# Altium integrated library Lattice FPGA XP.IntLib: 280 symbols (part 5 of 55)
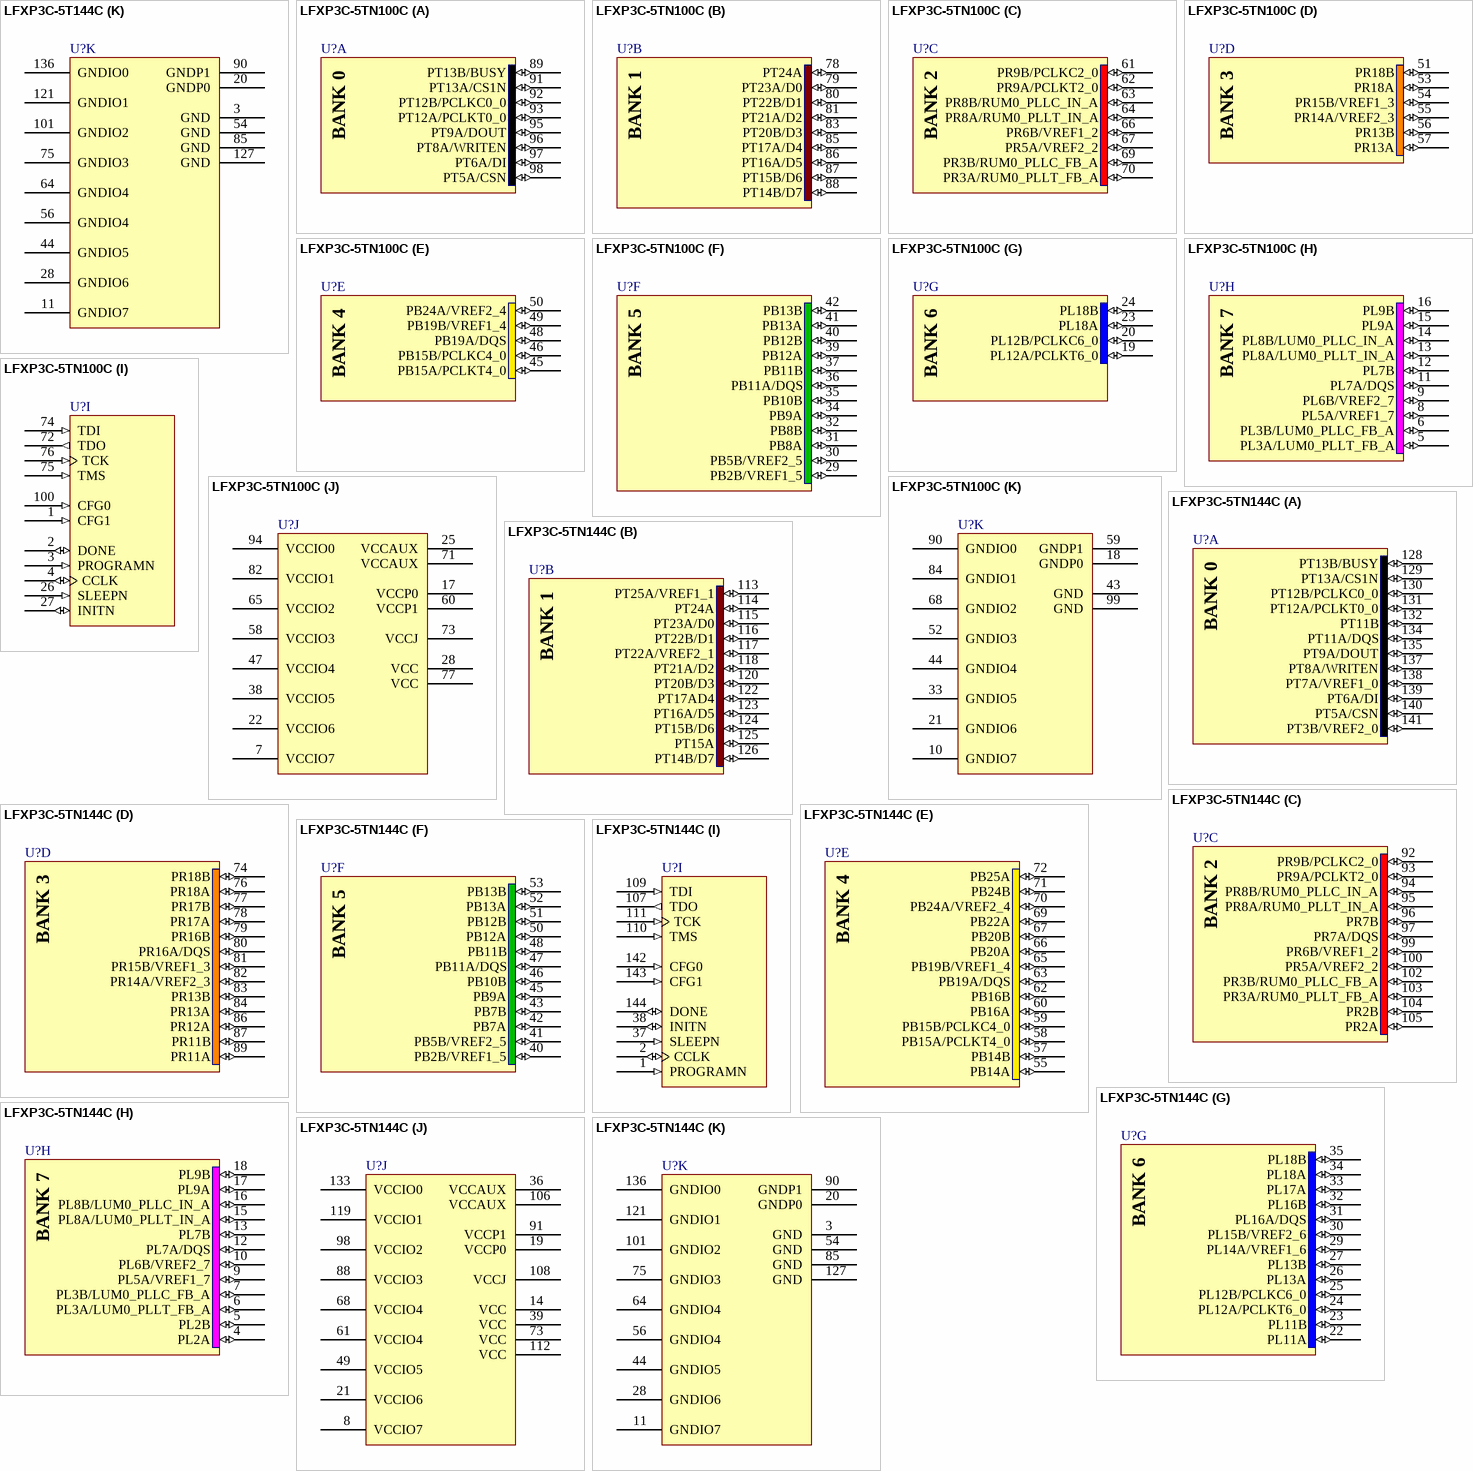
[diagram p254: symbols LFXP3C-5T144C to LFXP3C-5TN144C]

## LFXP3C-5TN144C
designator U?
XP 1.8/2.5/3.3V FPGA, 100 I/Os, 3K LUTs, 144-Pin TQFP, Speed Grade 5, Commerical Grade, Pb-Free; DatasheetVersion: ver05.1, Nov-2007; PackageVersion: ver02.8, Jul-2011; PackageReference: TQFP144; PackageDescription: 144-Pin Thin Quad Flat Pack (TQFP144); Code_JEDEC: MS-026-BFB; ComponentLink1Description: Manufacturer URL; ComponentLink1URL: http://www.latticesemi.com/; ComponentLink2Description: Datasheet; ComponentLink2URL: http://www.latticesemi.com/lit/docs/datasheets/fpga/DS1001.pdf; ComponentLink3Description: Package Specification; ComponentLink3URL: http://www.latticesemi.com/lit/docs/package/pkg.pdf
footprint TQFP144_N (Thin QFP, 144-Leads, Body 20x20mm, Pitch 0.5mm, IPC Medium Density)
footprint TQFP144_L (Thin QFP, 144-Leads, Body 20x20mm, Pitch 0.5mm, IPC High Density)
footprint TQFP144_M (Thin QFP, 144-Leads, Body 20x20mm, Pitch 0.5mm, IPC Low Density)
part A pins: 128 PT13B/BUSY (io), 129 PT13A/CS1N (io), 130 PT12B/PCLKC0_0 (io), 131 PT12A/PCLKT0_0 (io), 132 PT11B (io), 134 PT11A/DQS (io), 135 PT9A/DOUT (io), 137 PT8A/WRITEN (io), 138 PT7A/VREF1_0 (io), 139 PT6A/DI (io), 140 PT5A/CSN (io), 141 PT3B/VREF2_0 (io)
part B pins: 113 PT25A/VREF1_1 (io), 114 PT24A (io), 115 PT23A/D0 (io), 116 PT22B/D1 (io), 117 PT22A/VREF2_1 (io), 118 PT21A/D2 (io), 120 PT20B/D3 (io), 122 PT17AD4 (io), 123 PT16A/D5 (io), 124 PT15B/D6 (io), 125 PT15A (io), 126 PT14B/D7 (io)
part C pins: 92 PR9B/PCLKC2_0 (io), 93 PR9A/PCLKT2_0 (io), 94 PR8B/RUM0_PLLC_IN_A (io), 95 PR8A/RUM0_PLLT_IN_A (io), 96 PR7B (io), 97 PR7A/DQS (io), 99 PR6B/VREF1_2 (io), 100 PR5A/VREF2_2 (io), 102 PR3B/RUM0_PLLC_FB_A (io), 103 PR3A/RUM0_PLLT_FB_A (io), 104 PR2B (io), 105 PR2A (io)
part D pins: 74 PR18B (io), 76 PR18A (io), 77 PR17B (io), 78 PR17A (io), 79 PR16B (io), 80 PR16A/DQS (io), 81 PR15B/VREF1_3 (io), 82 PR14A/VREF2_3 (io), 83 PR13B (io), 84 PR13A (io), 86 PR12A (io), 87 PR11B (io), 89 PR11A (io)
part E pins: 55 PB14A (io), 57 PB14B (io), 58 PB15A/PCLKT4_0 (io), 59 PB15B/PCLKC4_0 (io), 60 PB16A (io), 62 PB16B (io), 63 PB19A/DQS (io), 65 PB19B/VREF1_4 (io), 66 PB20A (io), 67 PB20B (io), 69 PB22A (io), 70 PB24A/VREF2_4 (io), 71 PB24B (io), 72 PB25A (io)
part F pins: 40 PB2B/VREF1_5 (io), 41 PB5B/VREF2_5 (io), 42 PB7A (io), 43 PB7B (io), 45 PB9A (io), 46 PB10B (io), 47 PB11A/DQS (io), 48 PB11B (io), 50 PB12A (io), 51 PB12B (io), 52 PB13A (io), 53 PB13B (io)
part G pins: 22 PL11A (io), 23 PL11B (io), 24 PL12A/PCLKT6_0 (io), 25 PL12B/PCLKC6_0 (io), 26 PL13A (io), 27 PL13B (io), 29 PL14A/VREF1_6 (io), 30 PL15B/VREF2_6 (io), 31 PL16A/DQS (io), 32 PL16B (io), 33 PL17A (io), 34 PL18A (io), 35 PL18B (io)
part H pins: 4 PL2A (io), 5 PL2B (io), 6 PL3A/LUM0_PLLT_FB_A (io), 7 PL3B/LUM0_PLLC_FB_A (io), 9 PL5A/VREF1_7 (io), 10 PL6B/VREF2_7 (io), 12 PL7A/DQS (io), 13 PL7B (io), 15 PL8A/LUM0_PLLT_IN_A (io), 16 PL8B/LUM0_PLLC_IN_A (io), 17 PL9A (io), 18 PL9B (io)
part I pins: 1 PROGRAMN (in), 2 CCLK (io), 37 SLEEPN (in), 38 INITN (io), 107 TDO (out), 109 TDI (in), 110 TMS (in), 111 TCK (in), 142 CFG0 (in), 143 CFG1 (in), 144 DONE (io)
part J pins: 8 VCCIO7 (power), 14 VCC (power), 19 VCCP0 (power), 21 VCCIO6 (power), 36 VCCAUX (power), 39 VCC (power), 49 VCCIO5 (power), 61 VCCIO4 (power), 68 VCCIO4 (power), 73 VCC (power), 88 VCCIO3 (power), 91 VCCP1 (power), 98 VCCIO2 (power), 106 VCCAUX (power), 108 VCCJ (power), 112 VCC (power), 119 VCCIO1 (power), 133 VCCIO0 (power)
part K pins: 3 GND (power), 11 GNDIO7 (power), 20 GNDP0 (power), 28 GNDIO6 (power), 44 GNDIO5 (power), 54 GND (power), 56 GNDIO4 (power), 64 GNDIO4 (power), 75 GNDIO3 (power), 85 GND (power), 90 GNDP1 (power), 101 GNDIO2 (power), 121 GNDIO1 (power), 127 GND (power), 136 GNDIO0 (power)
part A text: BANK 0
part B text: BANK 1
part C text: BANK 2
part D text: BANK 3
part E text: BANK 4
part F text: BANK 5
part G text: BANK 6
part H text: BANK 7

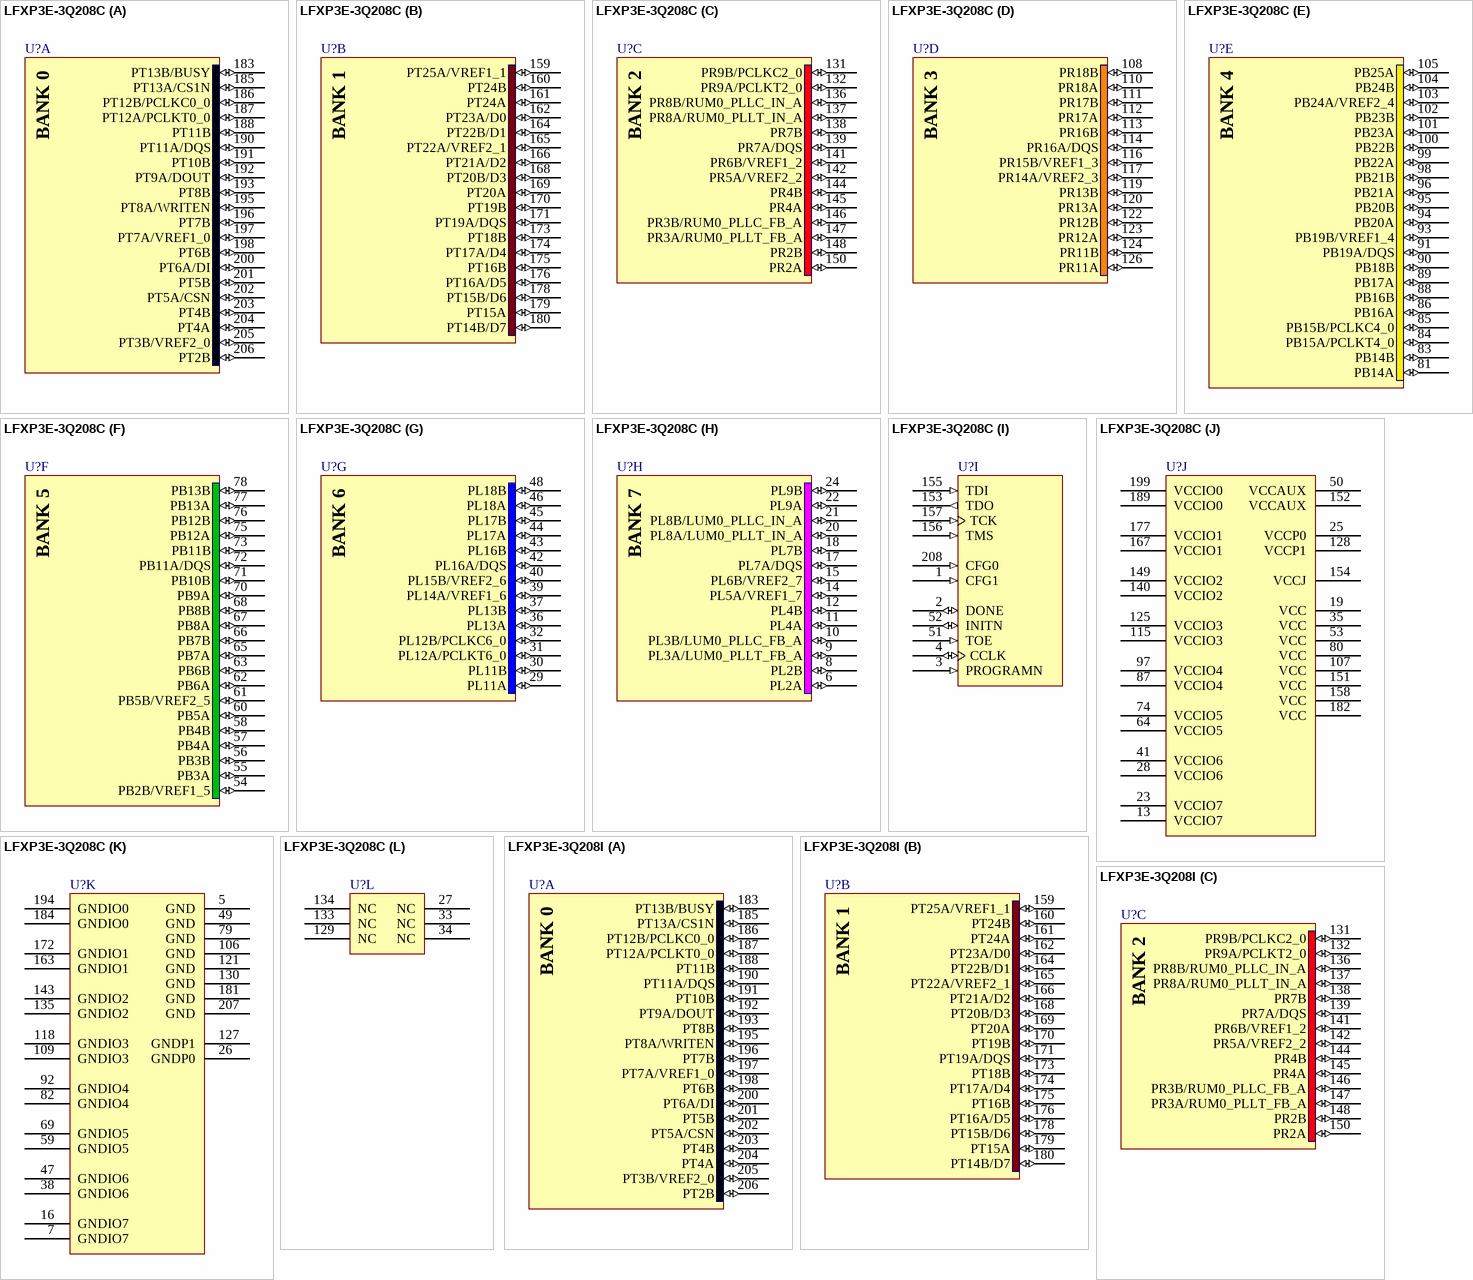
[diagram p17: symbols LFXP3E-3Q208C to LFXP3E-3Q208I]

## LFXP3E-3Q208C
designator U?
XP 1.2V FPGA, 136 I/Os, 3K LUTs, 208-Pin PQFP, Speed Grade 3, Commerical Grade; DatasheetVersion: ver05.1, Nov-2007; PackageVersion: ver01.8, Dec-2008; PackageReference: PQFP208; PackageDescription: 208-Pin Plastic Quad Flat Pack (PQFP208); Code_JEDEC: MO-143-FAI; ComponentLink1Description: Manufacturer URL; ComponentLink1URL: http://www.latticesemi.com/; ComponentLink2Description: Datasheet; ComponentLink2URL: http://www.latticesemi.com/lit/docs/datasheets/fpga/DS1001.pdf; ComponentLink3Description: Package Specification; ComponentLink3URL: http://www.latticesemi.com/lit/docs/package/pkg.pdf
footprint PQFP208_N (Shrink QFP, 208-Leads, Body 28x28mm, Pitch 0.5mm, IPC Medium Density)
footprint PQFP208_L (Shrink QFP, 208-Leads, Body 28x28mm, Pitch 0.5mm, IPC High Density)
footprint PQFP208_M (Shrink QFP, 208-Leads, Body 28x28mm, Pitch 0.5mm, IPC Low Density)
part A pins: 183 PT13B/BUSY (io), 185 PT13A/CS1N (io), 186 PT12B/PCLKC0_0 (io), 187 PT12A/PCLKT0_0 (io), 188 PT11B (io), 190 PT11A/DQS (io), 191 PT10B (io), 192 PT9A/DOUT (io), 193 PT8B (io), 195 PT8A/WRITEN (io), 196 PT7B (io), 197 PT7A/VREF1_0 (io), 198 PT6B (io), 200 PT6A/DI (io), 201 PT5B (io), 202 PT5A/CSN (io), 203 PT4B (io), 204 PT4A (io), 205 PT3B/VREF2_0 (io), 206 PT2B (io)
part B pins: 159 PT25A/VREF1_1 (io), 160 PT24B (io), 161 PT24A (io), 162 PT23A/D0 (io), 164 PT22B/D1 (io), 165 PT22A/VREF2_1 (io), 166 PT21A/D2 (io), 168 PT20B/D3 (io), 169 PT20A (io), 170 PT19B (io), 171 PT19A/DQS (io), 173 PT18B (io), 174 PT17A/D4 (io), 175 PT16B (io), 176 PT16A/D5 (io), 178 PT15B/D6 (io), 179 PT15A (io), 180 PT14B/D7 (io)
part C pins: 131 PR9B/PCLKC2_0 (io), 132 PR9A/PCLKT2_0 (io), 136 PR8B/RUM0_PLLC_IN_A (io), 137 PR8A/RUM0_PLLT_IN_A (io), 138 PR7B (io), 139 PR7A/DQS (io), 141 PR6B/VREF1_2 (io), 142 PR5A/VREF2_2 (io), 144 PR4B (io), 145 PR4A (io), 146 PR3B/RUM0_PLLC_FB_A (io), 147 PR3A/RUM0_PLLT_FB_A (io), 148 PR2B (io), 150 PR2A (io)
part D pins: 108 PR18B (io), 110 PR18A (io), 111 PR17B (io), 112 PR17A (io), 113 PR16B (io), 114 PR16A/DQS (io), 116 PR15B/VREF1_3 (io), 117 PR14A/VREF2_3 (io), 119 PR13B (io), 120 PR13A (io), 122 PR12B (io), 123 PR12A (io), 124 PR11B (io), 126 PR11A (io)
part E pins: 81 PB14A (io), 83 PB14B (io), 84 PB15A/PCLKT4_0 (io), 85 PB15B/PCLKC4_0 (io), 86 PB16A (io), 88 PB16B (io), 89 PB17A (io), 90 PB18B (io), 91 PB19A/DQS (io), 93 PB19B/VREF1_4 (io), 94 PB20A (io), 95 PB20B (io), 96 PB21A (io), 98 PB21B (io), 99 PB22A (io), 100 PB22B (io), 101 PB23A (io), 102 PB23B (io), 103 PB24A/VREF2_4 (io), 104 PB24B (io), 105 PB25A (io)
part F pins: 54 PB2B/VREF1_5 (io), 55 PB3A (io), 56 PB3B (io), 57 PB4A (io), 58 PB4B (io), 60 PB5A (io), 61 PB5B/VREF2_5 (io), 62 PB6A (io), 63 PB6B (io), 65 PB7A (io), 66 PB7B (io), 67 PB8A (io), 68 PB8B (io), 70 PB9A (io), 71 PB10B (io), 72 PB11A/DQS (io), 73 PB11B (io), 75 PB12A (io), 76 PB12B (io), 77 PB13A (io), 78 PB13B (io)
part G pins: 29 PL11A (io), 30 PL11B (io), 31 PL12A/PCLKT6_0 (io), 32 PL12B/PCLKC6_0 (io), 36 PL13A (io), 37 PL13B (io), 39 PL14A/VREF1_6 (io), 40 PL15B/VREF2_6 (io), 42 PL16A/DQS (io), 43 PL16B (io), 44 PL17A (io), 45 PL17B (io), 46 PL18A (io), 48 PL18B (io)
part H pins: 6 PL2A (io), 8 PL2B (io), 9 PL3A/LUM0_PLLT_FB_A (io), 10 PL3B/LUM0_PLLC_FB_A (io), 11 PL4A (io), 12 PL4B (io), 14 PL5A/VREF1_7 (io), 15 PL6B/VREF2_7 (io), 17 PL7A/DQS (io), 18 PL7B (io), 20 PL8A/LUM0_PLLT_IN_A (io), 21 PL8B/LUM0_PLLC_IN_A (io), 22 PL9A (io), 24 PL9B (io)
part I pins: 1 CFG1 (in), 2 DONE (io), 3 PROGRAMN (in), 4 CCLK (io), 51 TOE (in), 52 INITN (io), 153 TDO (out), 155 TDI (in), 156 TMS (in), 157 TCK (in), 208 CFG0 (in)
part J pins: 13 VCCIO7 (power), 19 VCC (power), 23 VCCIO7 (power), 25 VCCP0 (power), 28 VCCIO6 (power), 35 VCC (power), 41 VCCIO6 (power), 50 VCCAUX (power), 53 VCC (power), 64 VCCIO5 (power), 74 VCCIO5 (power), 80 VCC (power), 87 VCCIO4 (power), 97 VCCIO4 (power), 107 VCC (power), 115 VCCIO3 (power), 125 VCCIO3 (power), 128 VCCP1 (power), 140 VCCIO2 (power), 149 VCCIO2 (power), 151 VCC (power), 152 VCCAUX (power), 154 VCCJ (power), 158 VCC (power), 167 VCCIO1 (power), 177 VCCIO1 (power), 182 VCC (power), 189 VCCIO0 (power), 199 VCCIO0 (power)
part K pins: 5 GND (power), 7 GNDIO7 (power), 16 GNDIO7 (power), 26 GNDP0 (power), 38 GNDIO6 (power), 47 GNDIO6 (power), 49 GND (power), 59 GNDIO5 (power), 69 GNDIO5 (power), 79 GND (power), 82 GNDIO4 (power), 92 GNDIO4 (power), 106 GND (power), 109 GNDIO3 (power), 118 GNDIO3 (power), 121 GND (power), 127 GNDP1 (power), 130 GND (power), 135 GNDIO2 (power), 143 GNDIO2 (power), 163 GNDIO1 (power), 172 GNDIO1 (power), 181 GND (power), 184 GNDIO0 (power), 194 GNDIO0 (power), 207 GND (power)
part L pins: 27 NC, 33 NC, 34 NC, 129 NC, 133 NC, 134 NC
part A text: BANK 0
part B text: BANK 1
part C text: BANK 2
part D text: BANK 3
part E text: BANK 4
part F text: BANK 5
part G text: BANK 6
part H text: BANK 7

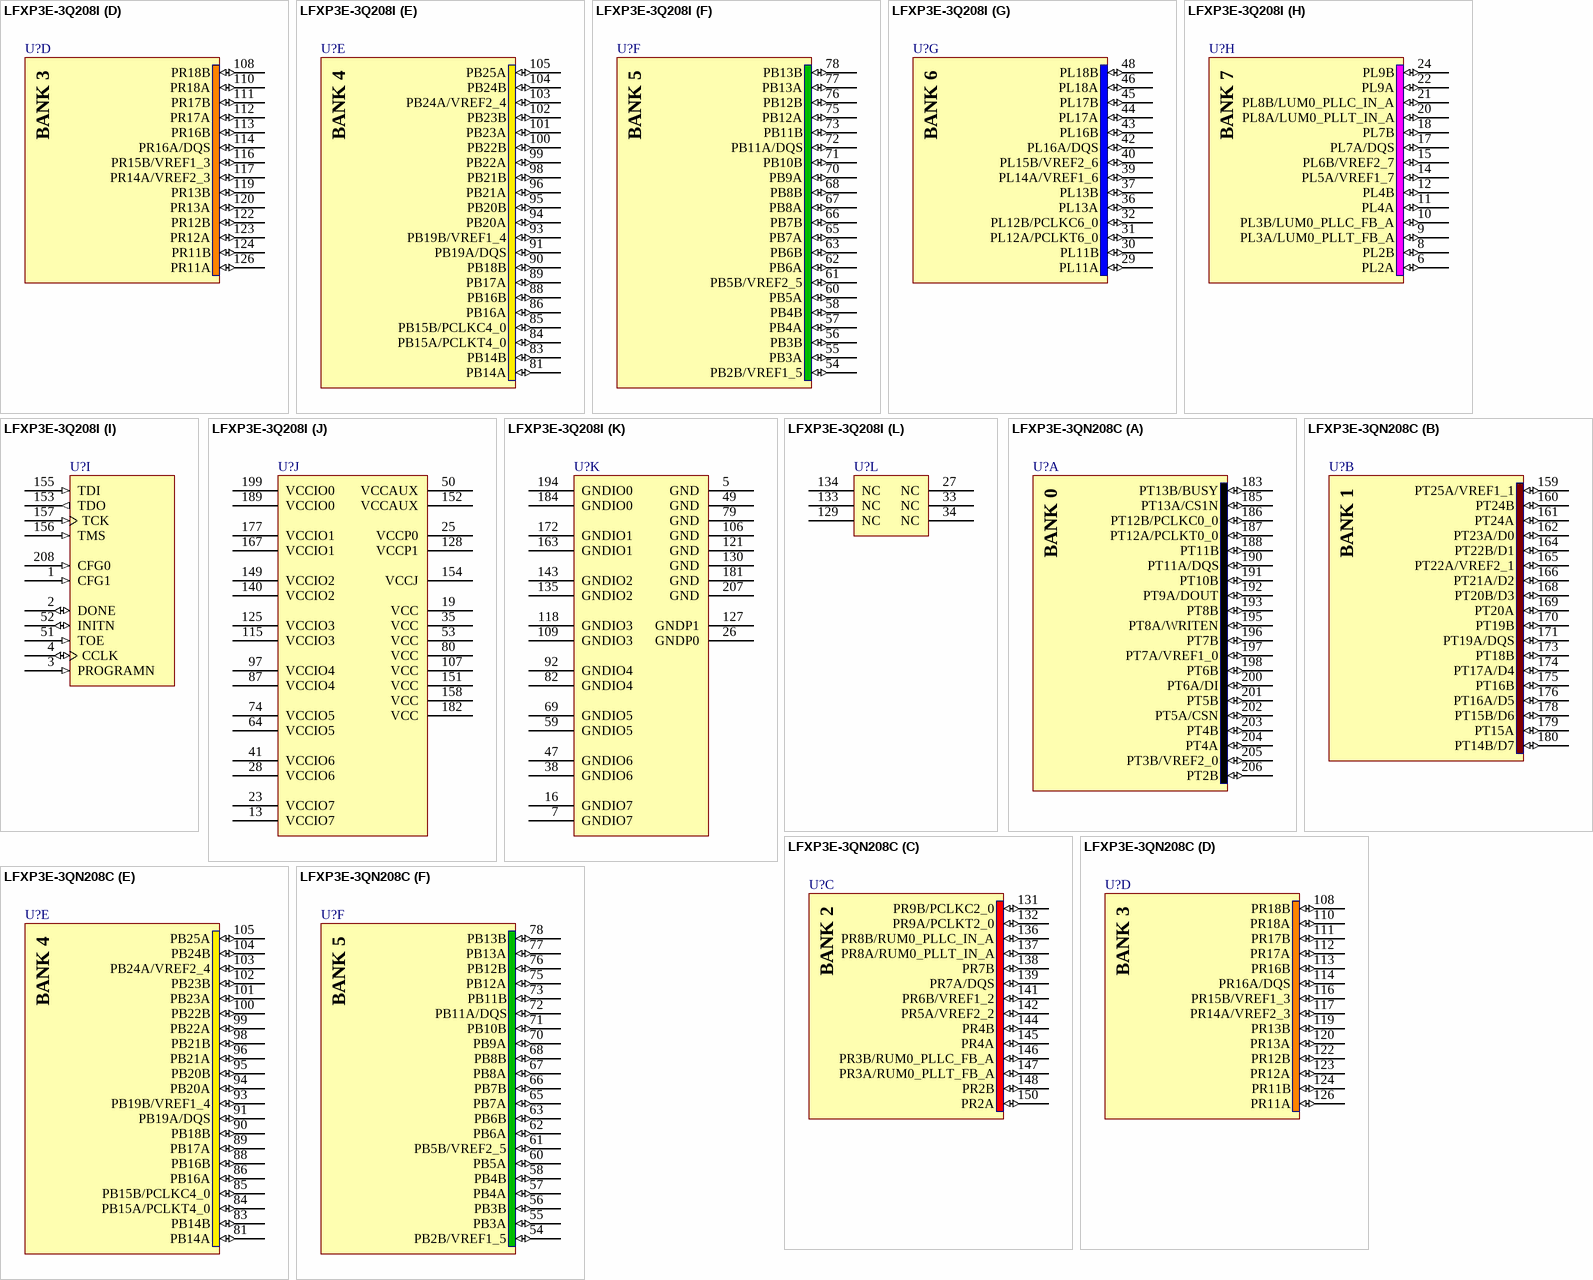
[diagram p18: symbols LFXP3E-3Q208I to LFXP3E-3QN208C]

## LFXP3E-3Q208I
designator U?
XP 1.2V FPGA, 136 I/Os, 3K LUTs, 208-Pin PQFP, Speed Grade 3, Industrial Grade; DatasheetVersion: ver05.1, Nov-2007; PackageVersion: ver01.8, Dec-2008; PackageReference: PQFP208; PackageDescription: 208-Pin Plastic Quad Flat Pack (PQFP208); Code_JEDEC: MO-143-FAI; ComponentLink1Description: Manufacturer URL; ComponentLink1URL: http://www.latticesemi.com/; ComponentLink2Description: Datasheet; ComponentLink2URL: http://www.latticesemi.com/lit/docs/datasheets/fpga/DS1001.pdf; ComponentLink3Description: Package Specification; ComponentLink3URL: http://www.latticesemi.com/lit/docs/package/pkg.pdf
footprint PQFP208_N (Shrink QFP, 208-Leads, Body 28x28mm, Pitch 0.5mm, IPC Medium Density)
footprint PQFP208_L (Shrink QFP, 208-Leads, Body 28x28mm, Pitch 0.5mm, IPC High Density)
footprint PQFP208_M (Shrink QFP, 208-Leads, Body 28x28mm, Pitch 0.5mm, IPC Low Density)
part A pins: 183 PT13B/BUSY (io), 185 PT13A/CS1N (io), 186 PT12B/PCLKC0_0 (io), 187 PT12A/PCLKT0_0 (io), 188 PT11B (io), 190 PT11A/DQS (io), 191 PT10B (io), 192 PT9A/DOUT (io), 193 PT8B (io), 195 PT8A/WRITEN (io), 196 PT7B (io), 197 PT7A/VREF1_0 (io), 198 PT6B (io), 200 PT6A/DI (io), 201 PT5B (io), 202 PT5A/CSN (io), 203 PT4B (io), 204 PT4A (io), 205 PT3B/VREF2_0 (io), 206 PT2B (io)
part B pins: 159 PT25A/VREF1_1 (io), 160 PT24B (io), 161 PT24A (io), 162 PT23A/D0 (io), 164 PT22B/D1 (io), 165 PT22A/VREF2_1 (io), 166 PT21A/D2 (io), 168 PT20B/D3 (io), 169 PT20A (io), 170 PT19B (io), 171 PT19A/DQS (io), 173 PT18B (io), 174 PT17A/D4 (io), 175 PT16B (io), 176 PT16A/D5 (io), 178 PT15B/D6 (io), 179 PT15A (io), 180 PT14B/D7 (io)
part C pins: 131 PR9B/PCLKC2_0 (io), 132 PR9A/PCLKT2_0 (io), 136 PR8B/RUM0_PLLC_IN_A (io), 137 PR8A/RUM0_PLLT_IN_A (io), 138 PR7B (io), 139 PR7A/DQS (io), 141 PR6B/VREF1_2 (io), 142 PR5A/VREF2_2 (io), 144 PR4B (io), 145 PR4A (io), 146 PR3B/RUM0_PLLC_FB_A (io), 147 PR3A/RUM0_PLLT_FB_A (io), 148 PR2B (io), 150 PR2A (io)
part D pins: 108 PR18B (io), 110 PR18A (io), 111 PR17B (io), 112 PR17A (io), 113 PR16B (io), 114 PR16A/DQS (io), 116 PR15B/VREF1_3 (io), 117 PR14A/VREF2_3 (io), 119 PR13B (io), 120 PR13A (io), 122 PR12B (io), 123 PR12A (io), 124 PR11B (io), 126 PR11A (io)
part E pins: 81 PB14A (io), 83 PB14B (io), 84 PB15A/PCLKT4_0 (io), 85 PB15B/PCLKC4_0 (io), 86 PB16A (io), 88 PB16B (io), 89 PB17A (io), 90 PB18B (io), 91 PB19A/DQS (io), 93 PB19B/VREF1_4 (io), 94 PB20A (io), 95 PB20B (io), 96 PB21A (io), 98 PB21B (io), 99 PB22A (io), 100 PB22B (io), 101 PB23A (io), 102 PB23B (io), 103 PB24A/VREF2_4 (io), 104 PB24B (io), 105 PB25A (io)
part F pins: 54 PB2B/VREF1_5 (io), 55 PB3A (io), 56 PB3B (io), 57 PB4A (io), 58 PB4B (io), 60 PB5A (io), 61 PB5B/VREF2_5 (io), 62 PB6A (io), 63 PB6B (io), 65 PB7A (io), 66 PB7B (io), 67 PB8A (io), 68 PB8B (io), 70 PB9A (io), 71 PB10B (io), 72 PB11A/DQS (io), 73 PB11B (io), 75 PB12A (io), 76 PB12B (io), 77 PB13A (io), 78 PB13B (io)
part G pins: 29 PL11A (io), 30 PL11B (io), 31 PL12A/PCLKT6_0 (io), 32 PL12B/PCLKC6_0 (io), 36 PL13A (io), 37 PL13B (io), 39 PL14A/VREF1_6 (io), 40 PL15B/VREF2_6 (io), 42 PL16A/DQS (io), 43 PL16B (io), 44 PL17A (io), 45 PL17B (io), 46 PL18A (io), 48 PL18B (io)
part H pins: 6 PL2A (io), 8 PL2B (io), 9 PL3A/LUM0_PLLT_FB_A (io), 10 PL3B/LUM0_PLLC_FB_A (io), 11 PL4A (io), 12 PL4B (io), 14 PL5A/VREF1_7 (io), 15 PL6B/VREF2_7 (io), 17 PL7A/DQS (io), 18 PL7B (io), 20 PL8A/LUM0_PLLT_IN_A (io), 21 PL8B/LUM0_PLLC_IN_A (io), 22 PL9A (io), 24 PL9B (io)
part I pins: 1 CFG1 (in), 2 DONE (io), 3 PROGRAMN (in), 4 CCLK (io), 51 TOE (in), 52 INITN (io), 153 TDO (out), 155 TDI (in), 156 TMS (in), 157 TCK (in), 208 CFG0 (in)
part J pins: 13 VCCIO7 (power), 19 VCC (power), 23 VCCIO7 (power), 25 VCCP0 (power), 28 VCCIO6 (power), 35 VCC (power), 41 VCCIO6 (power), 50 VCCAUX (power), 53 VCC (power), 64 VCCIO5 (power), 74 VCCIO5 (power), 80 VCC (power), 87 VCCIO4 (power), 97 VCCIO4 (power), 107 VCC (power), 115 VCCIO3 (power), 125 VCCIO3 (power), 128 VCCP1 (power), 140 VCCIO2 (power), 149 VCCIO2 (power), 151 VCC (power), 152 VCCAUX (power), 154 VCCJ (power), 158 VCC (power), 167 VCCIO1 (power), 177 VCCIO1 (power), 182 VCC (power), 189 VCCIO0 (power), 199 VCCIO0 (power)
part K pins: 5 GND (power), 7 GNDIO7 (power), 16 GNDIO7 (power), 26 GNDP0 (power), 38 GNDIO6 (power), 47 GNDIO6 (power), 49 GND (power), 59 GNDIO5 (power), 69 GNDIO5 (power), 79 GND (power), 82 GNDIO4 (power), 92 GNDIO4 (power), 106 GND (power), 109 GNDIO3 (power), 118 GNDIO3 (power), 121 GND (power), 127 GNDP1 (power), 130 GND (power), 135 GNDIO2 (power), 143 GNDIO2 (power), 163 GNDIO1 (power), 172 GNDIO1 (power), 181 GND (power), 184 GNDIO0 (power), 194 GNDIO0 (power), 207 GND (power)
part L pins: 27 NC, 33 NC, 34 NC, 129 NC, 133 NC, 134 NC
part A text: BANK 0
part B text: BANK 1
part C text: BANK 2
part D text: BANK 3
part E text: BANK 4
part F text: BANK 5
part G text: BANK 6
part H text: BANK 7

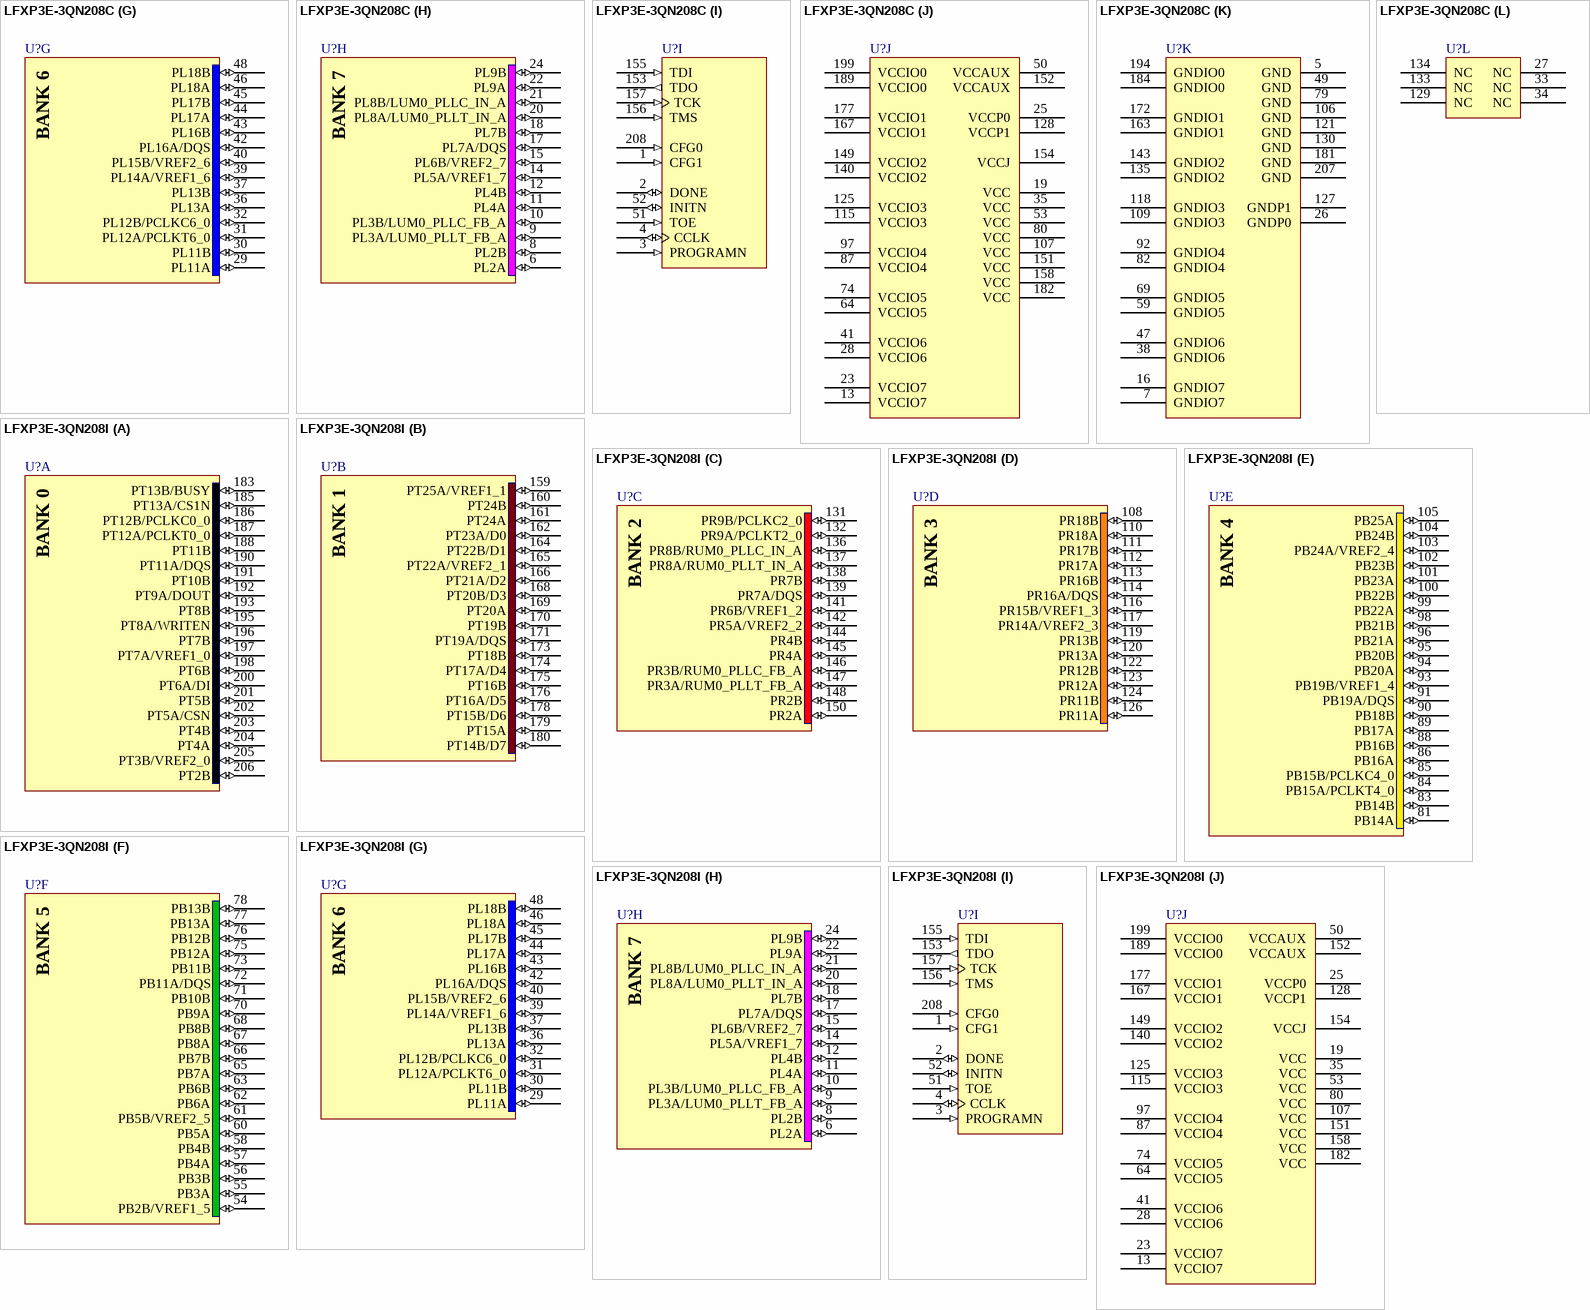
[diagram p19: symbols LFXP3E-3QN208C to LFXP3E-3QN208I]

## LFXP3E-3QN208C
designator U?
XP 1.2V FPGA, 136 I/Os, 3K LUTs, 208-Pin PQFP, Speed Grade 3, Commercial Grade, Pb-Free; DatasheetVersion: ver05.1, Nov-2007; PackageVersion: ver01.8, Dec-2008; PackageReference: PQFP208; PackageDescription: 208-Pin Plastic Quad Flat Pack (PQFP208); Code_JEDEC: MO-143-FAI; ComponentLink1Description: Manufacturer URL; ComponentLink1URL: http://www.latticesemi.com/; ComponentLink2Description: Datasheet; ComponentLink2URL: http://www.latticesemi.com/lit/docs/datasheets/fpga/DS1001.pdf; ComponentLink3Description: Package Specification; ComponentLink3URL: http://www.latticesemi.com/lit/docs/package/pkg.pdf
footprint PQFP208_N (Shrink QFP, 208-Leads, Body 28x28mm, Pitch 0.5mm, IPC Medium Density)
footprint PQFP208_L (Shrink QFP, 208-Leads, Body 28x28mm, Pitch 0.5mm, IPC High Density)
footprint PQFP208_M (Shrink QFP, 208-Leads, Body 28x28mm, Pitch 0.5mm, IPC Low Density)
part A pins: 183 PT13B/BUSY (io), 185 PT13A/CS1N (io), 186 PT12B/PCLKC0_0 (io), 187 PT12A/PCLKT0_0 (io), 188 PT11B (io), 190 PT11A/DQS (io), 191 PT10B (io), 192 PT9A/DOUT (io), 193 PT8B (io), 195 PT8A/WRITEN (io), 196 PT7B (io), 197 PT7A/VREF1_0 (io), 198 PT6B (io), 200 PT6A/DI (io), 201 PT5B (io), 202 PT5A/CSN (io), 203 PT4B (io), 204 PT4A (io), 205 PT3B/VREF2_0 (io), 206 PT2B (io)
part B pins: 159 PT25A/VREF1_1 (io), 160 PT24B (io), 161 PT24A (io), 162 PT23A/D0 (io), 164 PT22B/D1 (io), 165 PT22A/VREF2_1 (io), 166 PT21A/D2 (io), 168 PT20B/D3 (io), 169 PT20A (io), 170 PT19B (io), 171 PT19A/DQS (io), 173 PT18B (io), 174 PT17A/D4 (io), 175 PT16B (io), 176 PT16A/D5 (io), 178 PT15B/D6 (io), 179 PT15A (io), 180 PT14B/D7 (io)
part C pins: 131 PR9B/PCLKC2_0 (io), 132 PR9A/PCLKT2_0 (io), 136 PR8B/RUM0_PLLC_IN_A (io), 137 PR8A/RUM0_PLLT_IN_A (io), 138 PR7B (io), 139 PR7A/DQS (io), 141 PR6B/VREF1_2 (io), 142 PR5A/VREF2_2 (io), 144 PR4B (io), 145 PR4A (io), 146 PR3B/RUM0_PLLC_FB_A (io), 147 PR3A/RUM0_PLLT_FB_A (io), 148 PR2B (io), 150 PR2A (io)
part D pins: 108 PR18B (io), 110 PR18A (io), 111 PR17B (io), 112 PR17A (io), 113 PR16B (io), 114 PR16A/DQS (io), 116 PR15B/VREF1_3 (io), 117 PR14A/VREF2_3 (io), 119 PR13B (io), 120 PR13A (io), 122 PR12B (io), 123 PR12A (io), 124 PR11B (io), 126 PR11A (io)
part E pins: 81 PB14A (io), 83 PB14B (io), 84 PB15A/PCLKT4_0 (io), 85 PB15B/PCLKC4_0 (io), 86 PB16A (io), 88 PB16B (io), 89 PB17A (io), 90 PB18B (io), 91 PB19A/DQS (io), 93 PB19B/VREF1_4 (io), 94 PB20A (io), 95 PB20B (io), 96 PB21A (io), 98 PB21B (io), 99 PB22A (io), 100 PB22B (io), 101 PB23A (io), 102 PB23B (io), 103 PB24A/VREF2_4 (io), 104 PB24B (io), 105 PB25A (io)
part F pins: 54 PB2B/VREF1_5 (io), 55 PB3A (io), 56 PB3B (io), 57 PB4A (io), 58 PB4B (io), 60 PB5A (io), 61 PB5B/VREF2_5 (io), 62 PB6A (io), 63 PB6B (io), 65 PB7A (io), 66 PB7B (io), 67 PB8A (io), 68 PB8B (io), 70 PB9A (io), 71 PB10B (io), 72 PB11A/DQS (io), 73 PB11B (io), 75 PB12A (io), 76 PB12B (io), 77 PB13A (io), 78 PB13B (io)
part G pins: 29 PL11A (io), 30 PL11B (io), 31 PL12A/PCLKT6_0 (io), 32 PL12B/PCLKC6_0 (io), 36 PL13A (io), 37 PL13B (io), 39 PL14A/VREF1_6 (io), 40 PL15B/VREF2_6 (io), 42 PL16A/DQS (io), 43 PL16B (io), 44 PL17A (io), 45 PL17B (io), 46 PL18A (io), 48 PL18B (io)
part H pins: 6 PL2A (io), 8 PL2B (io), 9 PL3A/LUM0_PLLT_FB_A (io), 10 PL3B/LUM0_PLLC_FB_A (io), 11 PL4A (io), 12 PL4B (io), 14 PL5A/VREF1_7 (io), 15 PL6B/VREF2_7 (io), 17 PL7A/DQS (io), 18 PL7B (io), 20 PL8A/LUM0_PLLT_IN_A (io), 21 PL8B/LUM0_PLLC_IN_A (io), 22 PL9A (io), 24 PL9B (io)
part I pins: 1 CFG1 (in), 2 DONE (io), 3 PROGRAMN (in), 4 CCLK (io), 51 TOE (in), 52 INITN (io), 153 TDO (out), 155 TDI (in), 156 TMS (in), 157 TCK (in), 208 CFG0 (in)
part J pins: 13 VCCIO7 (power), 19 VCC (power), 23 VCCIO7 (power), 25 VCCP0 (power), 28 VCCIO6 (power), 35 VCC (power), 41 VCCIO6 (power), 50 VCCAUX (power), 53 VCC (power), 64 VCCIO5 (power), 74 VCCIO5 (power), 80 VCC (power), 87 VCCIO4 (power), 97 VCCIO4 (power), 107 VCC (power), 115 VCCIO3 (power), 125 VCCIO3 (power), 128 VCCP1 (power), 140 VCCIO2 (power), 149 VCCIO2 (power), 151 VCC (power), 152 VCCAUX (power), 154 VCCJ (power), 158 VCC (power), 167 VCCIO1 (power), 177 VCCIO1 (power), 182 VCC (power), 189 VCCIO0 (power), 199 VCCIO0 (power)
part K pins: 5 GND (power), 7 GNDIO7 (power), 16 GNDIO7 (power), 26 GNDP0 (power), 38 GNDIO6 (power), 47 GNDIO6 (power), 49 GND (power), 59 GNDIO5 (power), 69 GNDIO5 (power), 79 GND (power), 82 GNDIO4 (power), 92 GNDIO4 (power), 106 GND (power), 109 GNDIO3 (power), 118 GNDIO3 (power), 121 GND (power), 127 GNDP1 (power), 130 GND (power), 135 GNDIO2 (power), 143 GNDIO2 (power), 163 GNDIO1 (power), 172 GNDIO1 (power), 181 GND (power), 184 GNDIO0 (power), 194 GNDIO0 (power), 207 GND (power)
part L pins: 27 NC, 33 NC, 34 NC, 129 NC, 133 NC, 134 NC
part A text: BANK 0
part B text: BANK 1
part C text: BANK 2
part D text: BANK 3
part E text: BANK 4
part F text: BANK 5
part G text: BANK 6
part H text: BANK 7

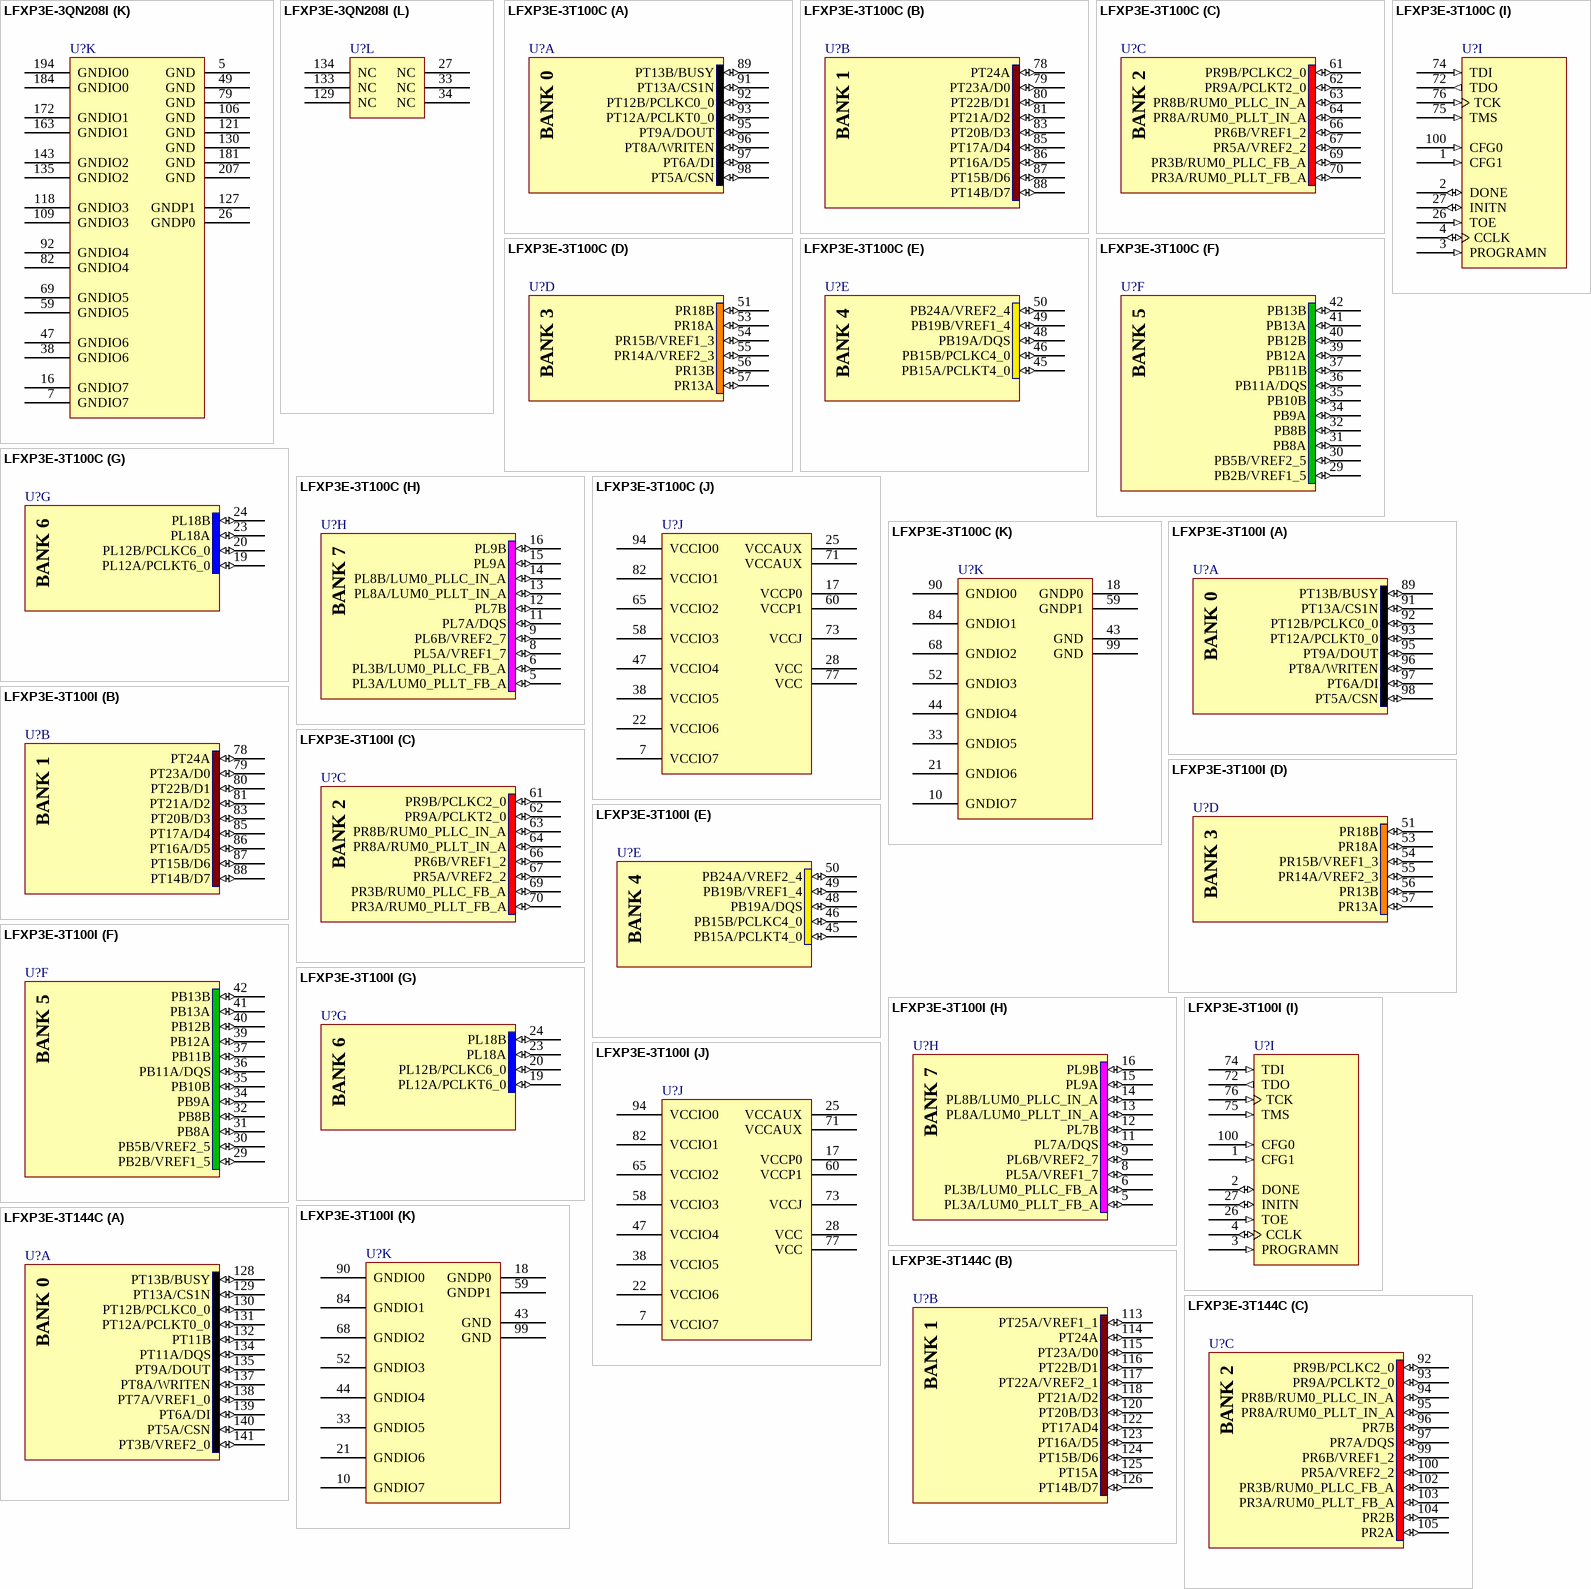
[diagram p20: symbols LFXP3E-3QN208I to LFXP3E-3T144C]

## LFXP3E-3QN208I
designator U?
XP 1.2V FPGA, 136 I/Os, 3K LUTs, 208-Pin PQFP, Speed Grade 3, Industrial Grade, Pb-Free; DatasheetVersion: ver05.1, Nov-2007; PackageVersion: ver01.8, Dec-2008; PackageReference: PQFP208; PackageDescription: 208-Pin Plastic Quad Flat Pack (PQFP208); Code_JEDEC: MO-143-FAI; ComponentLink1Description: Manufacturer URL; ComponentLink1URL: http://www.latticesemi.com/; ComponentLink2Description: Datasheet; ComponentLink2URL: http://www.latticesemi.com/lit/docs/datasheets/fpga/DS1001.pdf; ComponentLink3Description: Package Specification; ComponentLink3URL: http://www.latticesemi.com/lit/docs/package/pkg.pdf
footprint PQFP208_N (Shrink QFP, 208-Leads, Body 28x28mm, Pitch 0.5mm, IPC Medium Density)
footprint PQFP208_L (Shrink QFP, 208-Leads, Body 28x28mm, Pitch 0.5mm, IPC High Density)
footprint PQFP208_M (Shrink QFP, 208-Leads, Body 28x28mm, Pitch 0.5mm, IPC Low Density)
part A pins: 183 PT13B/BUSY (io), 185 PT13A/CS1N (io), 186 PT12B/PCLKC0_0 (io), 187 PT12A/PCLKT0_0 (io), 188 PT11B (io), 190 PT11A/DQS (io), 191 PT10B (io), 192 PT9A/DOUT (io), 193 PT8B (io), 195 PT8A/WRITEN (io), 196 PT7B (io), 197 PT7A/VREF1_0 (io), 198 PT6B (io), 200 PT6A/DI (io), 201 PT5B (io), 202 PT5A/CSN (io), 203 PT4B (io), 204 PT4A (io), 205 PT3B/VREF2_0 (io), 206 PT2B (io)
part B pins: 159 PT25A/VREF1_1 (io), 160 PT24B (io), 161 PT24A (io), 162 PT23A/D0 (io), 164 PT22B/D1 (io), 165 PT22A/VREF2_1 (io), 166 PT21A/D2 (io), 168 PT20B/D3 (io), 169 PT20A (io), 170 PT19B (io), 171 PT19A/DQS (io), 173 PT18B (io), 174 PT17A/D4 (io), 175 PT16B (io), 176 PT16A/D5 (io), 178 PT15B/D6 (io), 179 PT15A (io), 180 PT14B/D7 (io)
part C pins: 131 PR9B/PCLKC2_0 (io), 132 PR9A/PCLKT2_0 (io), 136 PR8B/RUM0_PLLC_IN_A (io), 137 PR8A/RUM0_PLLT_IN_A (io), 138 PR7B (io), 139 PR7A/DQS (io), 141 PR6B/VREF1_2 (io), 142 PR5A/VREF2_2 (io), 144 PR4B (io), 145 PR4A (io), 146 PR3B/RUM0_PLLC_FB_A (io), 147 PR3A/RUM0_PLLT_FB_A (io), 148 PR2B (io), 150 PR2A (io)
part D pins: 108 PR18B (io), 110 PR18A (io), 111 PR17B (io), 112 PR17A (io), 113 PR16B (io), 114 PR16A/DQS (io), 116 PR15B/VREF1_3 (io), 117 PR14A/VREF2_3 (io), 119 PR13B (io), 120 PR13A (io), 122 PR12B (io), 123 PR12A (io), 124 PR11B (io), 126 PR11A (io)
part E pins: 81 PB14A (io), 83 PB14B (io), 84 PB15A/PCLKT4_0 (io), 85 PB15B/PCLKC4_0 (io), 86 PB16A (io), 88 PB16B (io), 89 PB17A (io), 90 PB18B (io), 91 PB19A/DQS (io), 93 PB19B/VREF1_4 (io), 94 PB20A (io), 95 PB20B (io), 96 PB21A (io), 98 PB21B (io), 99 PB22A (io), 100 PB22B (io), 101 PB23A (io), 102 PB23B (io), 103 PB24A/VREF2_4 (io), 104 PB24B (io), 105 PB25A (io)
part F pins: 54 PB2B/VREF1_5 (io), 55 PB3A (io), 56 PB3B (io), 57 PB4A (io), 58 PB4B (io), 60 PB5A (io), 61 PB5B/VREF2_5 (io), 62 PB6A (io), 63 PB6B (io), 65 PB7A (io), 66 PB7B (io), 67 PB8A (io), 68 PB8B (io), 70 PB9A (io), 71 PB10B (io), 72 PB11A/DQS (io), 73 PB11B (io), 75 PB12A (io), 76 PB12B (io), 77 PB13A (io), 78 PB13B (io)
part G pins: 29 PL11A (io), 30 PL11B (io), 31 PL12A/PCLKT6_0 (io), 32 PL12B/PCLKC6_0 (io), 36 PL13A (io), 37 PL13B (io), 39 PL14A/VREF1_6 (io), 40 PL15B/VREF2_6 (io), 42 PL16A/DQS (io), 43 PL16B (io), 44 PL17A (io), 45 PL17B (io), 46 PL18A (io), 48 PL18B (io)
part H pins: 6 PL2A (io), 8 PL2B (io), 9 PL3A/LUM0_PLLT_FB_A (io), 10 PL3B/LUM0_PLLC_FB_A (io), 11 PL4A (io), 12 PL4B (io), 14 PL5A/VREF1_7 (io), 15 PL6B/VREF2_7 (io), 17 PL7A/DQS (io), 18 PL7B (io), 20 PL8A/LUM0_PLLT_IN_A (io), 21 PL8B/LUM0_PLLC_IN_A (io), 22 PL9A (io), 24 PL9B (io)
part I pins: 1 CFG1 (in), 2 DONE (io), 3 PROGRAMN (in), 4 CCLK (io), 51 TOE (in), 52 INITN (io), 153 TDO (out), 155 TDI (in), 156 TMS (in), 157 TCK (in), 208 CFG0 (in)
part J pins: 13 VCCIO7 (power), 19 VCC (power), 23 VCCIO7 (power), 25 VCCP0 (power), 28 VCCIO6 (power), 35 VCC (power), 41 VCCIO6 (power), 50 VCCAUX (power), 53 VCC (power), 64 VCCIO5 (power), 74 VCCIO5 (power), 80 VCC (power), 87 VCCIO4 (power), 97 VCCIO4 (power), 107 VCC (power), 115 VCCIO3 (power), 125 VCCIO3 (power), 128 VCCP1 (power), 140 VCCIO2 (power), 149 VCCIO2 (power), 151 VCC (power), 152 VCCAUX (power), 154 VCCJ (power), 158 VCC (power), 167 VCCIO1 (power), 177 VCCIO1 (power), 182 VCC (power), 189 VCCIO0 (power), 199 VCCIO0 (power)
part K pins: 5 GND (power), 7 GNDIO7 (power), 16 GNDIO7 (power), 26 GNDP0 (power), 38 GNDIO6 (power), 47 GNDIO6 (power), 49 GND (power), 59 GNDIO5 (power), 69 GNDIO5 (power), 79 GND (power), 82 GNDIO4 (power), 92 GNDIO4 (power), 106 GND (power), 109 GNDIO3 (power), 118 GNDIO3 (power), 121 GND (power), 127 GNDP1 (power), 130 GND (power), 135 GNDIO2 (power), 143 GNDIO2 (power), 163 GNDIO1 (power), 172 GNDIO1 (power), 181 GND (power), 184 GNDIO0 (power), 194 GNDIO0 (power), 207 GND (power)
part L pins: 27 NC, 33 NC, 34 NC, 129 NC, 133 NC, 134 NC
part A text: BANK 0
part B text: BANK 1
part C text: BANK 2
part D text: BANK 3
part E text: BANK 4
part F text: BANK 5
part G text: BANK 6
part H text: BANK 7

## LFXP3E-3T100C
designator U?
XP 1.2V FPGA, 62 I/Os, 3K LUTs, 100-Pin TQFP, Speed Grade 3, Commerical Grade; DatasheetVersion: ver05.1, Nov-2007; PackageVersion: ver02.8, Jul-2011; PackageReference: TQFP100; PackageDescription: 100-Pin Thin Quad Flat Pack (TQFP100); Code_JEDEC: MS-026-BED; ComponentLink1Description: Manufacturer URL; ComponentLink1URL: http://www.latticesemi.com/; ComponentLink2Description: Datasheet; ComponentLink2URL: http://www.latticesemi.com/lit/docs/datasheets/fpga/DS1001.pdf; ComponentLink3Description: Package Specification; ComponentLink3URL: http://www.latticesemi.com/lit/docs/package/pkg.pdf
footprint TQFP100_N (Thin QFP, 100-Leads, Body 14x14mm, Pitch 0.5mm, IPC Medium Density)
footprint TQFP100_L (Thin QFP, 100-Leads, Body 14x14mm, Pitch 0.5mm, IPC High Density)
footprint TQFP100_M (Thin QFP, 100-Leads, Body 14x14mm, Pitch 0.5mm, IPC Low Density)
part A pins: 89 PT13B/BUSY (io), 91 PT13A/CS1N (io), 92 PT12B/PCLKC0_0 (io), 93 PT12A/PCLKT0_0 (io), 95 PT9A/DOUT (io), 96 PT8A/WRITEN (io), 97 PT6A/DI (io), 98 PT5A/CSN (io)
part B pins: 78 PT24A (io), 79 PT23A/D0 (io), 80 PT22B/D1 (io), 81 PT21A/D2 (io), 83 PT20B/D3 (io), 85 PT17A/D4 (io), 86 PT16A/D5 (io), 87 PT15B/D6 (io), 88 PT14B/D7 (io)
part C pins: 61 PR9B/PCLKC2_0 (io), 62 PR9A/PCLKT2_0 (io), 63 PR8B/RUM0_PLLC_IN_A (io), 64 PR8A/RUM0_PLLT_IN_A (io), 66 PR6B/VREF1_2 (io), 67 PR5A/VREF2_2 (io), 69 PR3B/RUM0_PLLC_FB_A (io), 70 PR3A/RUM0_PLLT_FB_A (io)
part D pins: 51 PR18B (io), 53 PR18A (io), 54 PR15B/VREF1_3 (io), 55 PR14A/VREF2_3 (io), 56 PR13B (io), 57 PR13A (io)
part E pins: 45 PB15A/PCLKT4_0 (io), 46 PB15B/PCLKC4_0 (io), 48 PB19A/DQS (io), 49 PB19B/VREF1_4 (io), 50 PB24A/VREF2_4 (io)
part F pins: 29 PB2B/VREF1_5 (io), 30 PB5B/VREF2_5 (io), 31 PB8A (io), 32 PB8B (io), 34 PB9A (io), 35 PB10B (io), 36 PB11A/DQS (io), 37 PB11B (io), 39 PB12A (io), 40 PB12B (io), 41 PB13A (io), 42 PB13B (io)
part G pins: 19 PL12A/PCLKT6_0 (io), 20 PL12B/PCLKC6_0 (io), 23 PL18A (io), 24 PL18B (io)
part H pins: 5 PL3A/LUM0_PLLT_FB_A (io), 6 PL3B/LUM0_PLLC_FB_A (io), 8 PL5A/VREF1_7 (io), 9 PL6B/VREF2_7 (io), 11 PL7A/DQS (io), 12 PL7B (io), 13 PL8A/LUM0_PLLT_IN_A (io), 14 PL8B/LUM0_PLLC_IN_A (io), 15 PL9A (io), 16 PL9B (io)
part I pins: 1 CFG1 (in), 2 DONE (io), 3 PROGRAMN (in), 4 CCLK (io), 26 TOE (in), 27 INITN (io), 72 TDO (out), 74 TDI (in), 75 TMS (in), 76 TCK (in), 100 CFG0 (in)
part J pins: 7 VCCIO7 (power), 17 VCCP0 (power), 22 VCCIO6 (power), 25 VCCAUX (power), 28 VCC (power), 38 VCCIO5 (power), 47 VCCIO4 (power), 58 VCCIO3 (power), 60 VCCP1 (power), 65 VCCIO2 (power), 71 VCCAUX (power), 73 VCCJ (power), 77 VCC (power), 82 VCCIO1 (power), 94 VCCIO0 (power)
part K pins: 10 GNDIO7 (power), 18 GNDP0 (power), 21 GNDIO6 (power), 33 GNDIO5 (power), 43 GND (power), 44 GNDIO4 (power), 52 GNDIO3 (power), 59 GNDP1 (power), 68 GNDIO2 (power), 84 GNDIO1 (power), 90 GNDIO0 (power), 99 GND (power)
part A text: BANK 0
part B text: BANK 1
part C text: BANK 2
part D text: BANK 3
part E text: BANK 4
part F text: BANK 5
part G text: BANK 6
part H text: BANK 7

## LFXP3E-3T100I
designator U?
XP 1.2V FPGA, 62 I/Os, 3K LUTs, 100-Pin TQFP, Speed Grade 3, Industrial Grade; DatasheetVersion: ver05.1, Nov-2007; PackageVersion: ver02.8, Jul-2011; PackageReference: TQFP100; PackageDescription: 100-Pin Thin Quad Flat Pack (TQFP100); Code_JEDEC: MS-026-BED; ComponentLink1Description: Manufacturer URL; ComponentLink1URL: http://www.latticesemi.com/; ComponentLink2Description: Datasheet; ComponentLink2URL: http://www.latticesemi.com/lit/docs/datasheets/fpga/DS1001.pdf; ComponentLink3Description: Package Specification; ComponentLink3URL: http://www.latticesemi.com/lit/docs/package/pkg.pdf
footprint TQFP100_N (Thin QFP, 100-Leads, Body 14x14mm, Pitch 0.5mm, IPC Medium Density)
footprint TQFP100_L (Thin QFP, 100-Leads, Body 14x14mm, Pitch 0.5mm, IPC High Density)
footprint TQFP100_M (Thin QFP, 100-Leads, Body 14x14mm, Pitch 0.5mm, IPC Low Density)
part A pins: 89 PT13B/BUSY (io), 91 PT13A/CS1N (io), 92 PT12B/PCLKC0_0 (io), 93 PT12A/PCLKT0_0 (io), 95 PT9A/DOUT (io), 96 PT8A/WRITEN (io), 97 PT6A/DI (io), 98 PT5A/CSN (io)
part B pins: 78 PT24A (io), 79 PT23A/D0 (io), 80 PT22B/D1 (io), 81 PT21A/D2 (io), 83 PT20B/D3 (io), 85 PT17A/D4 (io), 86 PT16A/D5 (io), 87 PT15B/D6 (io), 88 PT14B/D7 (io)
part C pins: 61 PR9B/PCLKC2_0 (io), 62 PR9A/PCLKT2_0 (io), 63 PR8B/RUM0_PLLC_IN_A (io), 64 PR8A/RUM0_PLLT_IN_A (io), 66 PR6B/VREF1_2 (io), 67 PR5A/VREF2_2 (io), 69 PR3B/RUM0_PLLC_FB_A (io), 70 PR3A/RUM0_PLLT_FB_A (io)
part D pins: 51 PR18B (io), 53 PR18A (io), 54 PR15B/VREF1_3 (io), 55 PR14A/VREF2_3 (io), 56 PR13B (io), 57 PR13A (io)
part E pins: 45 PB15A/PCLKT4_0 (io), 46 PB15B/PCLKC4_0 (io), 48 PB19A/DQS (io), 49 PB19B/VREF1_4 (io), 50 PB24A/VREF2_4 (io)
part F pins: 29 PB2B/VREF1_5 (io), 30 PB5B/VREF2_5 (io), 31 PB8A (io), 32 PB8B (io), 34 PB9A (io), 35 PB10B (io), 36 PB11A/DQS (io), 37 PB11B (io), 39 PB12A (io), 40 PB12B (io), 41 PB13A (io), 42 PB13B (io)
part G pins: 19 PL12A/PCLKT6_0 (io), 20 PL12B/PCLKC6_0 (io), 23 PL18A (io), 24 PL18B (io)
part H pins: 5 PL3A/LUM0_PLLT_FB_A (io), 6 PL3B/LUM0_PLLC_FB_A (io), 8 PL5A/VREF1_7 (io), 9 PL6B/VREF2_7 (io), 11 PL7A/DQS (io), 12 PL7B (io), 13 PL8A/LUM0_PLLT_IN_A (io), 14 PL8B/LUM0_PLLC_IN_A (io), 15 PL9A (io), 16 PL9B (io)
part I pins: 1 CFG1 (in), 2 DONE (io), 3 PROGRAMN (in), 4 CCLK (io), 26 TOE (in), 27 INITN (io), 72 TDO (out), 74 TDI (in), 75 TMS (in), 76 TCK (in), 100 CFG0 (in)
part J pins: 7 VCCIO7 (power), 17 VCCP0 (power), 22 VCCIO6 (power), 25 VCCAUX (power), 28 VCC (power), 38 VCCIO5 (power), 47 VCCIO4 (power), 58 VCCIO3 (power), 60 VCCP1 (power), 65 VCCIO2 (power), 71 VCCAUX (power), 73 VCCJ (power), 77 VCC (power), 82 VCCIO1 (power), 94 VCCIO0 (power)
part K pins: 10 GNDIO7 (power), 18 GNDP0 (power), 21 GNDIO6 (power), 33 GNDIO5 (power), 43 GND (power), 44 GNDIO4 (power), 52 GNDIO3 (power), 59 GNDP1 (power), 68 GNDIO2 (power), 84 GNDIO1 (power), 90 GNDIO0 (power), 99 GND (power)
part A text: BANK 0
part B text: BANK 1
part C text: BANK 2
part D text: BANK 3
part E text: BANK 4
part F text: BANK 5
part G text: BANK 6
part H text: BANK 7

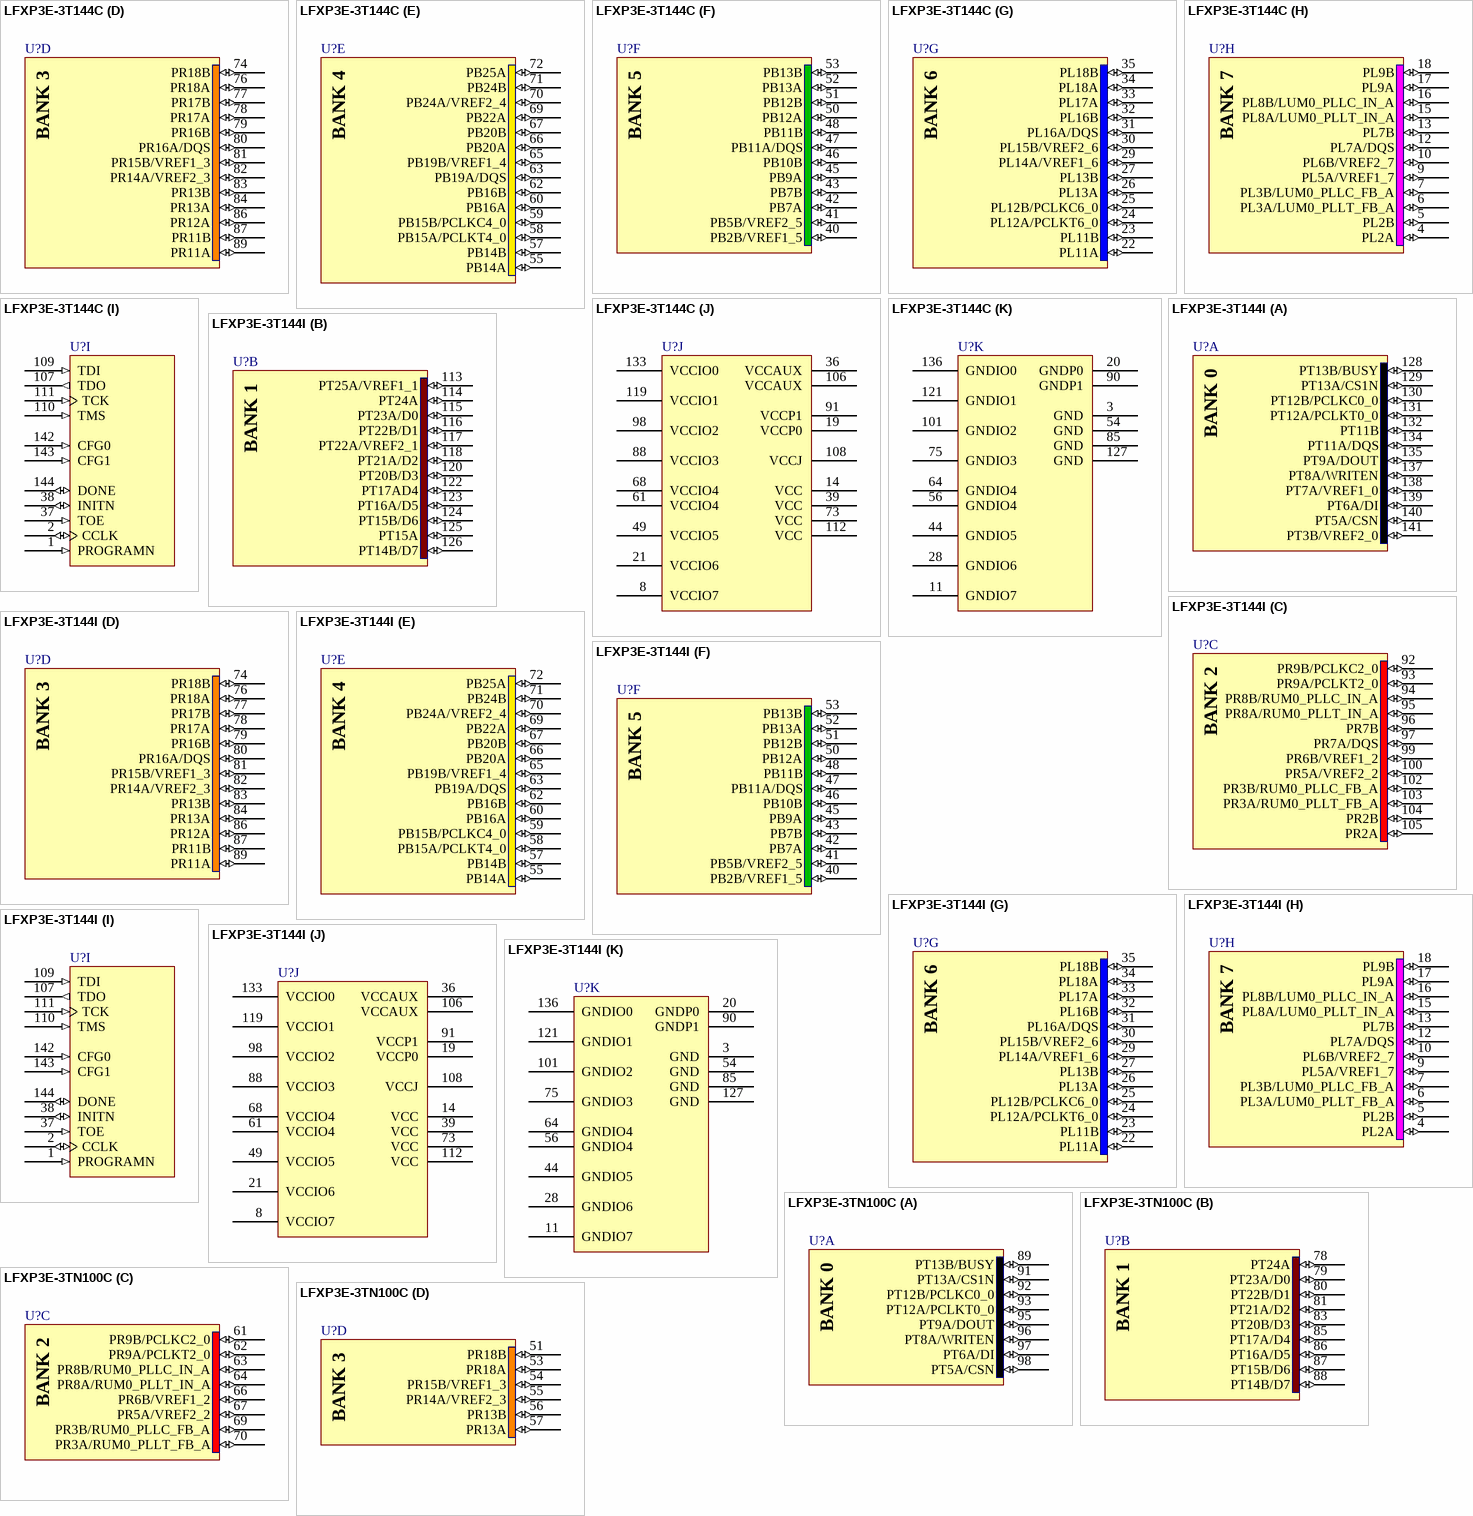
[diagram p21: symbols LFXP3E-3T144C to LFXP3E-3TN100C]

## LFXP3E-3T144C
designator U?
XP 1.2V FPGA, 100 I/Os, 3K LUTs, 144-Pin TQFP, Speed Grade 3, Commerical Grade; DatasheetVersion: ver05.1, Nov-2007; PackageVersion: ver02.8, Jul-2011; PackageReference: TQFP144; PackageDescription: 144-Pin Thin Quad Flat Pack (TQFP144); Code_JEDEC: MS-026-BFB; ComponentLink1Description: Manufacturer URL; ComponentLink1URL: http://www.latticesemi.com/; ComponentLink2Description: Datasheet; ComponentLink2URL: http://www.latticesemi.com/lit/docs/datasheets/fpga/DS1001.pdf; ComponentLink3Description: Package Specification; ComponentLink3URL: http://www.latticesemi.com/lit/docs/package/pkg.pdf
footprint TQFP144_N (Thin QFP, 144-Leads, Body 20x20mm, Pitch 0.5mm, IPC Medium Density)
footprint TQFP144_L (Thin QFP, 144-Leads, Body 20x20mm, Pitch 0.5mm, IPC High Density)
footprint TQFP144_M (Thin QFP, 144-Leads, Body 20x20mm, Pitch 0.5mm, IPC Low Density)
part A pins: 128 PT13B/BUSY (io), 129 PT13A/CS1N (io), 130 PT12B/PCLKC0_0 (io), 131 PT12A/PCLKT0_0 (io), 132 PT11B (io), 134 PT11A/DQS (io), 135 PT9A/DOUT (io), 137 PT8A/WRITEN (io), 138 PT7A/VREF1_0 (io), 139 PT6A/DI (io), 140 PT5A/CSN (io), 141 PT3B/VREF2_0 (io)
part B pins: 113 PT25A/VREF1_1 (io), 114 PT24A (io), 115 PT23A/D0 (io), 116 PT22B/D1 (io), 117 PT22A/VREF2_1 (io), 118 PT21A/D2 (io), 120 PT20B/D3 (io), 122 PT17AD4 (io), 123 PT16A/D5 (io), 124 PT15B/D6 (io), 125 PT15A (io), 126 PT14B/D7 (io)
part C pins: 92 PR9B/PCLKC2_0 (io), 93 PR9A/PCLKT2_0 (io), 94 PR8B/RUM0_PLLC_IN_A (io), 95 PR8A/RUM0_PLLT_IN_A (io), 96 PR7B (io), 97 PR7A/DQS (io), 99 PR6B/VREF1_2 (io), 100 PR5A/VREF2_2 (io), 102 PR3B/RUM0_PLLC_FB_A (io), 103 PR3A/RUM0_PLLT_FB_A (io), 104 PR2B (io), 105 PR2A (io)
part D pins: 74 PR18B (io), 76 PR18A (io), 77 PR17B (io), 78 PR17A (io), 79 PR16B (io), 80 PR16A/DQS (io), 81 PR15B/VREF1_3 (io), 82 PR14A/VREF2_3 (io), 83 PR13B (io), 84 PR13A (io), 86 PR12A (io), 87 PR11B (io), 89 PR11A (io)
part E pins: 55 PB14A (io), 57 PB14B (io), 58 PB15A/PCLKT4_0 (io), 59 PB15B/PCLKC4_0 (io), 60 PB16A (io), 62 PB16B (io), 63 PB19A/DQS (io), 65 PB19B/VREF1_4 (io), 66 PB20A (io), 67 PB20B (io), 69 PB22A (io), 70 PB24A/VREF2_4 (io), 71 PB24B (io), 72 PB25A (io)
part F pins: 40 PB2B/VREF1_5 (io), 41 PB5B/VREF2_5 (io), 42 PB7A (io), 43 PB7B (io), 45 PB9A (io), 46 PB10B (io), 47 PB11A/DQS (io), 48 PB11B (io), 50 PB12A (io), 51 PB12B (io), 52 PB13A (io), 53 PB13B (io)
part G pins: 22 PL11A (io), 23 PL11B (io), 24 PL12A/PCLKT6_0 (io), 25 PL12B/PCLKC6_0 (io), 26 PL13A (io), 27 PL13B (io), 29 PL14A/VREF1_6 (io), 30 PL15B/VREF2_6 (io), 31 PL16A/DQS (io), 32 PL16B (io), 33 PL17A (io), 34 PL18A (io), 35 PL18B (io)
part H pins: 4 PL2A (io), 5 PL2B (io), 6 PL3A/LUM0_PLLT_FB_A (io), 7 PL3B/LUM0_PLLC_FB_A (io), 9 PL5A/VREF1_7 (io), 10 PL6B/VREF2_7 (io), 12 PL7A/DQS (io), 13 PL7B (io), 15 PL8A/LUM0_PLLT_IN_A (io), 16 PL8B/LUM0_PLLC_IN_A (io), 17 PL9A (io), 18 PL9B (io)
part I pins: 1 PROGRAMN (in), 2 CCLK (io), 37 TOE (in), 38 INITN (io), 107 TDO (out), 109 TDI (in), 110 TMS (in), 111 TCK (in), 142 CFG0 (in), 143 CFG1 (in), 144 DONE (io)
part J pins: 8 VCCIO7 (power), 14 VCC (power), 19 VCCP0 (power), 21 VCCIO6 (power), 36 VCCAUX (power), 39 VCC (power), 49 VCCIO5 (power), 61 VCCIO4 (power), 68 VCCIO4 (power), 73 VCC (power), 88 VCCIO3 (power), 91 VCCP1 (power), 98 VCCIO2 (power), 106 VCCAUX (power), 108 VCCJ (power), 112 VCC (power), 119 VCCIO1 (power), 133 VCCIO0 (power)
part K pins: 3 GND (power), 11 GNDIO7 (power), 20 GNDP0 (power), 28 GNDIO6 (power), 44 GNDIO5 (power), 54 GND (power), 56 GNDIO4 (power), 64 GNDIO4 (power), 75 GNDIO3 (power), 85 GND (power), 90 GNDP1 (power), 101 GNDIO2 (power), 121 GNDIO1 (power), 127 GND (power), 136 GNDIO0 (power)
part A text: BANK 0
part B text: BANK 1
part C text: BANK 2
part D text: BANK 3
part E text: BANK 4
part F text: BANK 5
part G text: BANK 6
part H text: BANK 7

## LFXP3E-3T144I
designator U?
XP 1.2V FPGA, 100 I/Os, 3K LUTs, 144-Pin TQFP, Speed Grade 3, Industrial Grade; DatasheetVersion: ver05.1, Nov-2007; PackageVersion: ver02.8, Jul-2011; PackageReference: TQFP144; PackageDescription: 144-Pin Thin Quad Flat Pack (TQFP144); Code_JEDEC: MS-026-BFB; ComponentLink1Description: Manufacturer URL; ComponentLink1URL: http://www.latticesemi.com/; ComponentLink2Description: Datasheet; ComponentLink2URL: http://www.latticesemi.com/lit/docs/datasheets/fpga/DS1001.pdf; ComponentLink3Description: Package Specification; ComponentLink3URL: http://www.latticesemi.com/lit/docs/package/pkg.pdf
footprint TQFP144_N (Thin QFP, 144-Leads, Body 20x20mm, Pitch 0.5mm, IPC Medium Density)
footprint TQFP144_L (Thin QFP, 144-Leads, Body 20x20mm, Pitch 0.5mm, IPC High Density)
footprint TQFP144_M (Thin QFP, 144-Leads, Body 20x20mm, Pitch 0.5mm, IPC Low Density)
part A pins: 128 PT13B/BUSY (io), 129 PT13A/CS1N (io), 130 PT12B/PCLKC0_0 (io), 131 PT12A/PCLKT0_0 (io), 132 PT11B (io), 134 PT11A/DQS (io), 135 PT9A/DOUT (io), 137 PT8A/WRITEN (io), 138 PT7A/VREF1_0 (io), 139 PT6A/DI (io), 140 PT5A/CSN (io), 141 PT3B/VREF2_0 (io)
part B pins: 113 PT25A/VREF1_1 (io), 114 PT24A (io), 115 PT23A/D0 (io), 116 PT22B/D1 (io), 117 PT22A/VREF2_1 (io), 118 PT21A/D2 (io), 120 PT20B/D3 (io), 122 PT17AD4 (io), 123 PT16A/D5 (io), 124 PT15B/D6 (io), 125 PT15A (io), 126 PT14B/D7 (io)
part C pins: 92 PR9B/PCLKC2_0 (io), 93 PR9A/PCLKT2_0 (io), 94 PR8B/RUM0_PLLC_IN_A (io), 95 PR8A/RUM0_PLLT_IN_A (io), 96 PR7B (io), 97 PR7A/DQS (io), 99 PR6B/VREF1_2 (io), 100 PR5A/VREF2_2 (io), 102 PR3B/RUM0_PLLC_FB_A (io), 103 PR3A/RUM0_PLLT_FB_A (io), 104 PR2B (io), 105 PR2A (io)
part D pins: 74 PR18B (io), 76 PR18A (io), 77 PR17B (io), 78 PR17A (io), 79 PR16B (io), 80 PR16A/DQS (io), 81 PR15B/VREF1_3 (io), 82 PR14A/VREF2_3 (io), 83 PR13B (io), 84 PR13A (io), 86 PR12A (io), 87 PR11B (io), 89 PR11A (io)
part E pins: 55 PB14A (io), 57 PB14B (io), 58 PB15A/PCLKT4_0 (io), 59 PB15B/PCLKC4_0 (io), 60 PB16A (io), 62 PB16B (io), 63 PB19A/DQS (io), 65 PB19B/VREF1_4 (io), 66 PB20A (io), 67 PB20B (io), 69 PB22A (io), 70 PB24A/VREF2_4 (io), 71 PB24B (io), 72 PB25A (io)
part F pins: 40 PB2B/VREF1_5 (io), 41 PB5B/VREF2_5 (io), 42 PB7A (io), 43 PB7B (io), 45 PB9A (io), 46 PB10B (io), 47 PB11A/DQS (io), 48 PB11B (io), 50 PB12A (io), 51 PB12B (io), 52 PB13A (io), 53 PB13B (io)
part G pins: 22 PL11A (io), 23 PL11B (io), 24 PL12A/PCLKT6_0 (io), 25 PL12B/PCLKC6_0 (io), 26 PL13A (io), 27 PL13B (io), 29 PL14A/VREF1_6 (io), 30 PL15B/VREF2_6 (io), 31 PL16A/DQS (io), 32 PL16B (io), 33 PL17A (io), 34 PL18A (io), 35 PL18B (io)
part H pins: 4 PL2A (io), 5 PL2B (io), 6 PL3A/LUM0_PLLT_FB_A (io), 7 PL3B/LUM0_PLLC_FB_A (io), 9 PL5A/VREF1_7 (io), 10 PL6B/VREF2_7 (io), 12 PL7A/DQS (io), 13 PL7B (io), 15 PL8A/LUM0_PLLT_IN_A (io), 16 PL8B/LUM0_PLLC_IN_A (io), 17 PL9A (io), 18 PL9B (io)
part I pins: 1 PROGRAMN (in), 2 CCLK (io), 37 TOE (in), 38 INITN (io), 107 TDO (out), 109 TDI (in), 110 TMS (in), 111 TCK (in), 142 CFG0 (in), 143 CFG1 (in), 144 DONE (io)
part J pins: 8 VCCIO7 (power), 14 VCC (power), 19 VCCP0 (power), 21 VCCIO6 (power), 36 VCCAUX (power), 39 VCC (power), 49 VCCIO5 (power), 61 VCCIO4 (power), 68 VCCIO4 (power), 73 VCC (power), 88 VCCIO3 (power), 91 VCCP1 (power), 98 VCCIO2 (power), 106 VCCAUX (power), 108 VCCJ (power), 112 VCC (power), 119 VCCIO1 (power), 133 VCCIO0 (power)
part K pins: 3 GND (power), 11 GNDIO7 (power), 20 GNDP0 (power), 28 GNDIO6 (power), 44 GNDIO5 (power), 54 GND (power), 56 GNDIO4 (power), 64 GNDIO4 (power), 75 GNDIO3 (power), 85 GND (power), 90 GNDP1 (power), 101 GNDIO2 (power), 121 GNDIO1 (power), 127 GND (power), 136 GNDIO0 (power)
part A text: BANK 0
part B text: BANK 1
part C text: BANK 2
part D text: BANK 3
part E text: BANK 4
part F text: BANK 5
part G text: BANK 6
part H text: BANK 7

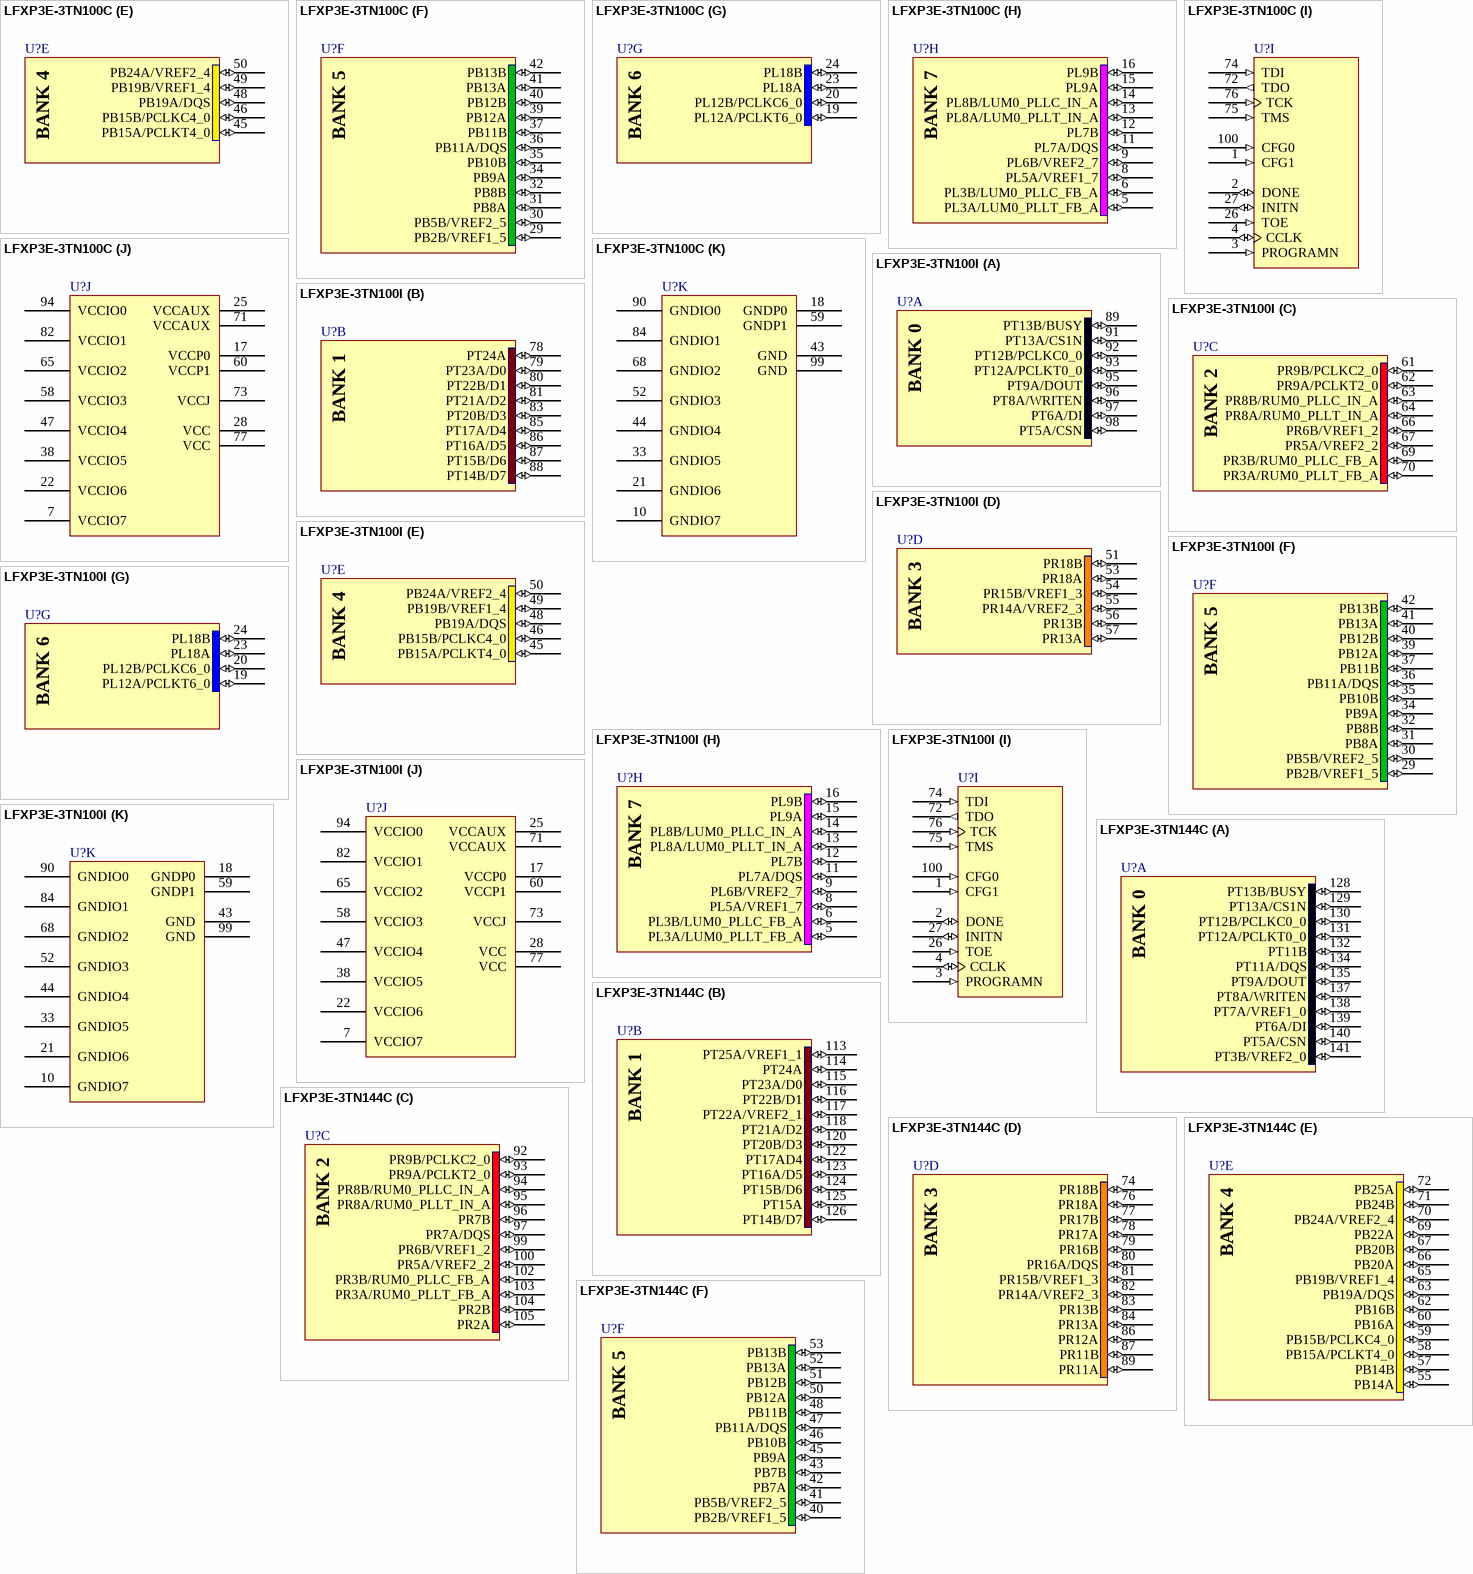
[diagram p22: symbols LFXP3E-3TN100C to LFXP3E-3TN144C]

## LFXP3E-3TN100C
designator U?
XP 1.2V FPGA, 62 I/Os, 3K LUTs, 100-Pin TQFP, Speed Grade 3, Commerical Grade, Pb-Free; DatasheetVersion: ver05.1, Nov-2007; PackageVersion: ver02.8, Jul-2011; PackageReference: TQFP100; PackageDescription: 100-Pin Thin Quad Flat Pack (TQFP100); Code_JEDEC: MS-026-BED; ComponentLink1Description: Manufacturer URL; ComponentLink1URL: http://www.latticesemi.com/; ComponentLink2Description: Datasheet; ComponentLink2URL: http://www.latticesemi.com/lit/docs/datasheets/fpga/DS1001.pdf; ComponentLink3Description: Package Specification; ComponentLink3URL: http://www.latticesemi.com/lit/docs/package/pkg.pdf
footprint TQFP100_N (Thin QFP, 100-Leads, Body 14x14mm, Pitch 0.5mm, IPC Medium Density)
footprint TQFP100_L (Thin QFP, 100-Leads, Body 14x14mm, Pitch 0.5mm, IPC High Density)
footprint TQFP100_M (Thin QFP, 100-Leads, Body 14x14mm, Pitch 0.5mm, IPC Low Density)
part A pins: 89 PT13B/BUSY (io), 91 PT13A/CS1N (io), 92 PT12B/PCLKC0_0 (io), 93 PT12A/PCLKT0_0 (io), 95 PT9A/DOUT (io), 96 PT8A/WRITEN (io), 97 PT6A/DI (io), 98 PT5A/CSN (io)
part B pins: 78 PT24A (io), 79 PT23A/D0 (io), 80 PT22B/D1 (io), 81 PT21A/D2 (io), 83 PT20B/D3 (io), 85 PT17A/D4 (io), 86 PT16A/D5 (io), 87 PT15B/D6 (io), 88 PT14B/D7 (io)
part C pins: 61 PR9B/PCLKC2_0 (io), 62 PR9A/PCLKT2_0 (io), 63 PR8B/RUM0_PLLC_IN_A (io), 64 PR8A/RUM0_PLLT_IN_A (io), 66 PR6B/VREF1_2 (io), 67 PR5A/VREF2_2 (io), 69 PR3B/RUM0_PLLC_FB_A (io), 70 PR3A/RUM0_PLLT_FB_A (io)
part D pins: 51 PR18B (io), 53 PR18A (io), 54 PR15B/VREF1_3 (io), 55 PR14A/VREF2_3 (io), 56 PR13B (io), 57 PR13A (io)
part E pins: 45 PB15A/PCLKT4_0 (io), 46 PB15B/PCLKC4_0 (io), 48 PB19A/DQS (io), 49 PB19B/VREF1_4 (io), 50 PB24A/VREF2_4 (io)
part F pins: 29 PB2B/VREF1_5 (io), 30 PB5B/VREF2_5 (io), 31 PB8A (io), 32 PB8B (io), 34 PB9A (io), 35 PB10B (io), 36 PB11A/DQS (io), 37 PB11B (io), 39 PB12A (io), 40 PB12B (io), 41 PB13A (io), 42 PB13B (io)
part G pins: 19 PL12A/PCLKT6_0 (io), 20 PL12B/PCLKC6_0 (io), 23 PL18A (io), 24 PL18B (io)
part H pins: 5 PL3A/LUM0_PLLT_FB_A (io), 6 PL3B/LUM0_PLLC_FB_A (io), 8 PL5A/VREF1_7 (io), 9 PL6B/VREF2_7 (io), 11 PL7A/DQS (io), 12 PL7B (io), 13 PL8A/LUM0_PLLT_IN_A (io), 14 PL8B/LUM0_PLLC_IN_A (io), 15 PL9A (io), 16 PL9B (io)
part I pins: 1 CFG1 (in), 2 DONE (io), 3 PROGRAMN (in), 4 CCLK (io), 26 TOE (in), 27 INITN (io), 72 TDO (out), 74 TDI (in), 75 TMS (in), 76 TCK (in), 100 CFG0 (in)
part J pins: 7 VCCIO7 (power), 17 VCCP0 (power), 22 VCCIO6 (power), 25 VCCAUX (power), 28 VCC (power), 38 VCCIO5 (power), 47 VCCIO4 (power), 58 VCCIO3 (power), 60 VCCP1 (power), 65 VCCIO2 (power), 71 VCCAUX (power), 73 VCCJ (power), 77 VCC (power), 82 VCCIO1 (power), 94 VCCIO0 (power)
part K pins: 10 GNDIO7 (power), 18 GNDP0 (power), 21 GNDIO6 (power), 33 GNDIO5 (power), 43 GND (power), 44 GNDIO4 (power), 52 GNDIO3 (power), 59 GNDP1 (power), 68 GNDIO2 (power), 84 GNDIO1 (power), 90 GNDIO0 (power), 99 GND (power)
part A text: BANK 0
part B text: BANK 1
part C text: BANK 2
part D text: BANK 3
part E text: BANK 4
part F text: BANK 5
part G text: BANK 6
part H text: BANK 7

## LFXP3E-3TN100I
designator U?
XP 1.2V FPGA, 62 I/Os, 3K LUTs, 100-Pin TQFP, Speed Grade 3, Industrial Grade, Pb-Free; DatasheetVersion: ver05.1, Nov-2007; PackageVersion: ver02.8, Jul-2011; PackageReference: TQFP100; PackageDescription: 100-Pin Thin Quad Flat Pack (TQFP100); Code_JEDEC: MS-026-BED; ComponentLink1Description: Manufacturer URL; ComponentLink1URL: http://www.latticesemi.com/; ComponentLink2Description: Datasheet; ComponentLink2URL: http://www.latticesemi.com/lit/docs/datasheets/fpga/DS1001.pdf; ComponentLink3Description: Package Specification; ComponentLink3URL: http://www.latticesemi.com/lit/docs/package/pkg.pdf
footprint TQFP100_N (Thin QFP, 100-Leads, Body 14x14mm, Pitch 0.5mm, IPC Medium Density)
footprint TQFP100_L (Thin QFP, 100-Leads, Body 14x14mm, Pitch 0.5mm, IPC High Density)
footprint TQFP100_M (Thin QFP, 100-Leads, Body 14x14mm, Pitch 0.5mm, IPC Low Density)
part A pins: 89 PT13B/BUSY (io), 91 PT13A/CS1N (io), 92 PT12B/PCLKC0_0 (io), 93 PT12A/PCLKT0_0 (io), 95 PT9A/DOUT (io), 96 PT8A/WRITEN (io), 97 PT6A/DI (io), 98 PT5A/CSN (io)
part B pins: 78 PT24A (io), 79 PT23A/D0 (io), 80 PT22B/D1 (io), 81 PT21A/D2 (io), 83 PT20B/D3 (io), 85 PT17A/D4 (io), 86 PT16A/D5 (io), 87 PT15B/D6 (io), 88 PT14B/D7 (io)
part C pins: 61 PR9B/PCLKC2_0 (io), 62 PR9A/PCLKT2_0 (io), 63 PR8B/RUM0_PLLC_IN_A (io), 64 PR8A/RUM0_PLLT_IN_A (io), 66 PR6B/VREF1_2 (io), 67 PR5A/VREF2_2 (io), 69 PR3B/RUM0_PLLC_FB_A (io), 70 PR3A/RUM0_PLLT_FB_A (io)
part D pins: 51 PR18B (io), 53 PR18A (io), 54 PR15B/VREF1_3 (io), 55 PR14A/VREF2_3 (io), 56 PR13B (io), 57 PR13A (io)
part E pins: 45 PB15A/PCLKT4_0 (io), 46 PB15B/PCLKC4_0 (io), 48 PB19A/DQS (io), 49 PB19B/VREF1_4 (io), 50 PB24A/VREF2_4 (io)
part F pins: 29 PB2B/VREF1_5 (io), 30 PB5B/VREF2_5 (io), 31 PB8A (io), 32 PB8B (io), 34 PB9A (io), 35 PB10B (io), 36 PB11A/DQS (io), 37 PB11B (io), 39 PB12A (io), 40 PB12B (io), 41 PB13A (io), 42 PB13B (io)
part G pins: 19 PL12A/PCLKT6_0 (io), 20 PL12B/PCLKC6_0 (io), 23 PL18A (io), 24 PL18B (io)
part H pins: 5 PL3A/LUM0_PLLT_FB_A (io), 6 PL3B/LUM0_PLLC_FB_A (io), 8 PL5A/VREF1_7 (io), 9 PL6B/VREF2_7 (io), 11 PL7A/DQS (io), 12 PL7B (io), 13 PL8A/LUM0_PLLT_IN_A (io), 14 PL8B/LUM0_PLLC_IN_A (io), 15 PL9A (io), 16 PL9B (io)
part I pins: 1 CFG1 (in), 2 DONE (io), 3 PROGRAMN (in), 4 CCLK (io), 26 TOE (in), 27 INITN (io), 72 TDO (out), 74 TDI (in), 75 TMS (in), 76 TCK (in), 100 CFG0 (in)
part J pins: 7 VCCIO7 (power), 17 VCCP0 (power), 22 VCCIO6 (power), 25 VCCAUX (power), 28 VCC (power), 38 VCCIO5 (power), 47 VCCIO4 (power), 58 VCCIO3 (power), 60 VCCP1 (power), 65 VCCIO2 (power), 71 VCCAUX (power), 73 VCCJ (power), 77 VCC (power), 82 VCCIO1 (power), 94 VCCIO0 (power)
part K pins: 10 GNDIO7 (power), 18 GNDP0 (power), 21 GNDIO6 (power), 33 GNDIO5 (power), 43 GND (power), 44 GNDIO4 (power), 52 GNDIO3 (power), 59 GNDP1 (power), 68 GNDIO2 (power), 84 GNDIO1 (power), 90 GNDIO0 (power), 99 GND (power)
part A text: BANK 0
part B text: BANK 1
part C text: BANK 2
part D text: BANK 3
part E text: BANK 4
part F text: BANK 5
part G text: BANK 6
part H text: BANK 7

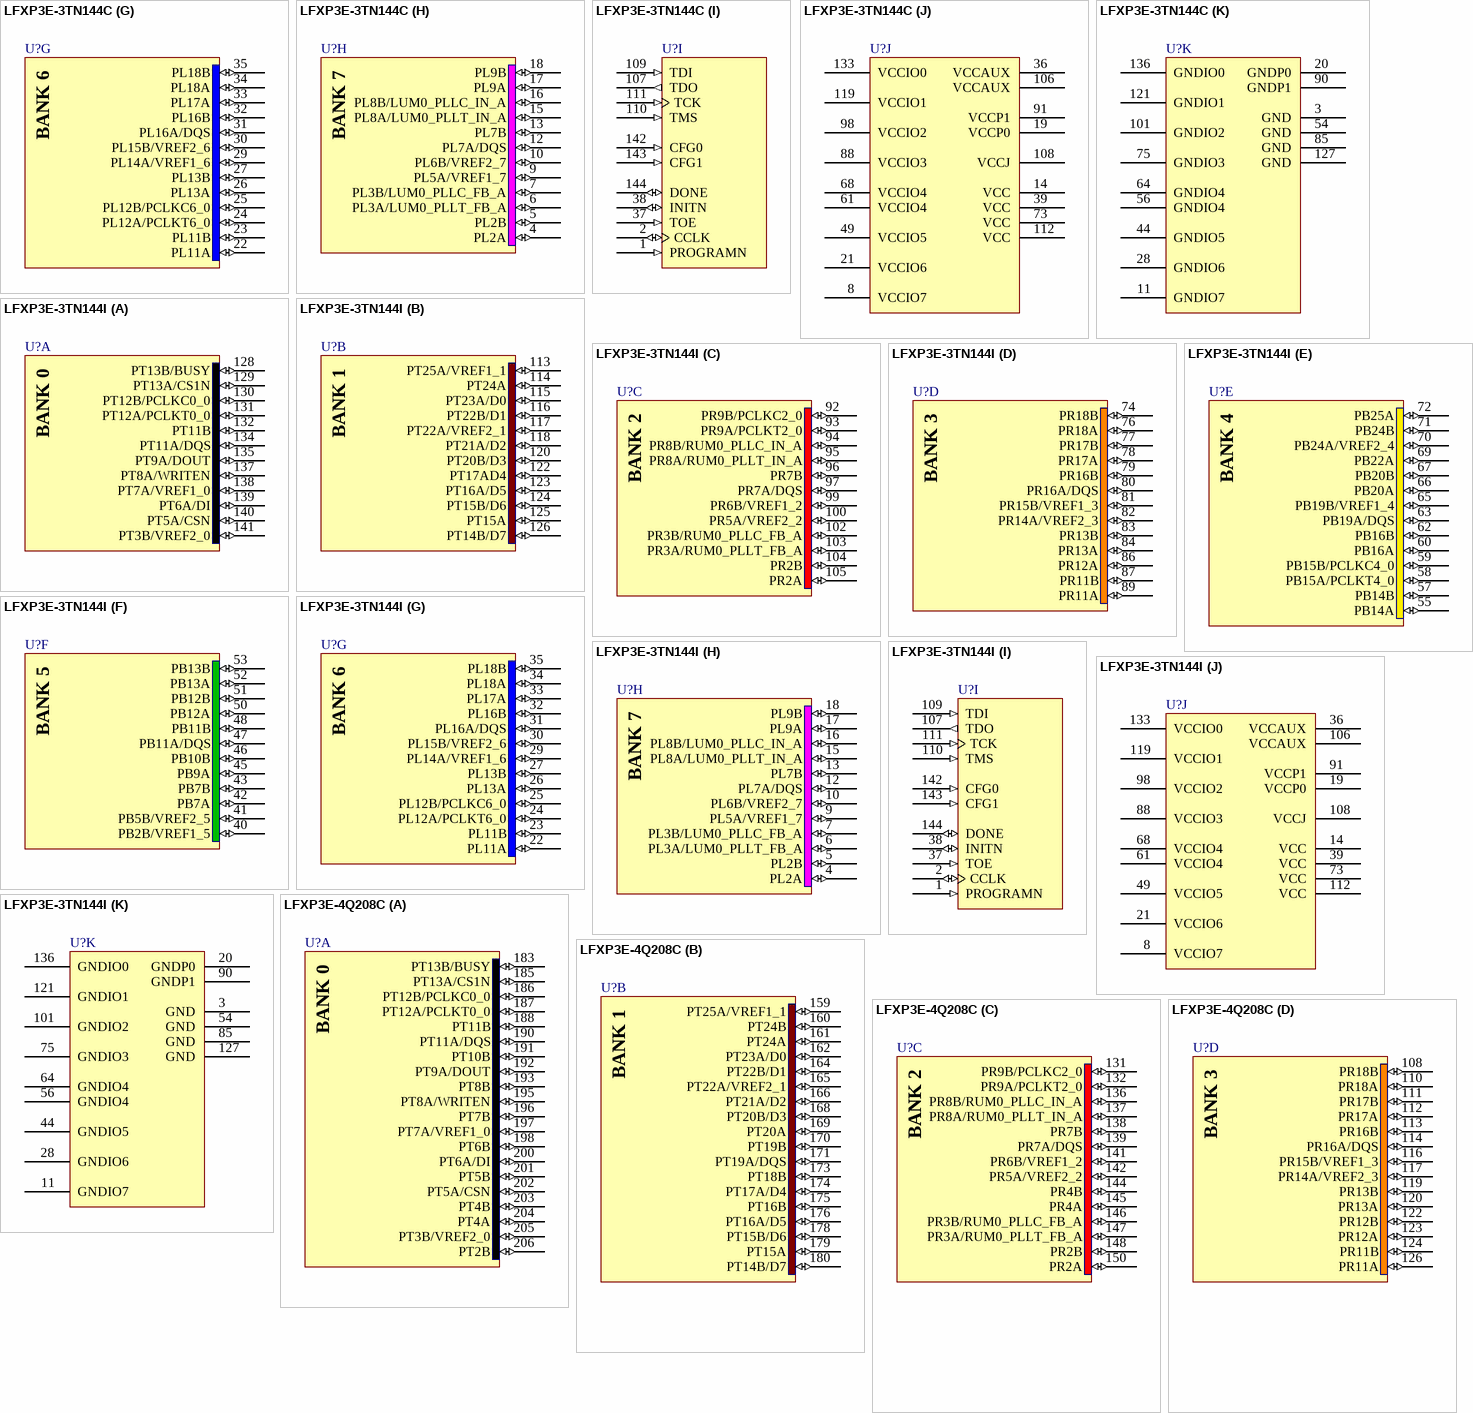
[diagram p23: symbols LFXP3E-3TN144C to LFXP3E-4Q208C]

## LFXP3E-3TN144C
designator U?
XP 1.2V FPGA, 100 I/Os, 3K LUTs, 144-Pin TQFP, Speed Grade 3, Commerical Grade, Pb-Free; DatasheetVersion: ver05.1, Nov-2007; PackageVersion: ver02.8, Jul-2011; PackageReference: TQFP144; PackageDescription: 144-Pin Thin Quad Flat Pack (TQFP144); Code_JEDEC: MS-026-BFB; ComponentLink1Description: Manufacturer URL; ComponentLink1URL: http://www.latticesemi.com/; ComponentLink2Description: Datasheet; ComponentLink2URL: http://www.latticesemi.com/lit/docs/datasheets/fpga/DS1001.pdf; ComponentLink3Description: Package Specification; ComponentLink3URL: http://www.latticesemi.com/lit/docs/package/pkg.pdf
footprint TQFP144_N (Thin QFP, 144-Leads, Body 20x20mm, Pitch 0.5mm, IPC Medium Density)
footprint TQFP144_L (Thin QFP, 144-Leads, Body 20x20mm, Pitch 0.5mm, IPC High Density)
footprint TQFP144_M (Thin QFP, 144-Leads, Body 20x20mm, Pitch 0.5mm, IPC Low Density)
part A pins: 128 PT13B/BUSY (io), 129 PT13A/CS1N (io), 130 PT12B/PCLKC0_0 (io), 131 PT12A/PCLKT0_0 (io), 132 PT11B (io), 134 PT11A/DQS (io), 135 PT9A/DOUT (io), 137 PT8A/WRITEN (io), 138 PT7A/VREF1_0 (io), 139 PT6A/DI (io), 140 PT5A/CSN (io), 141 PT3B/VREF2_0 (io)
part B pins: 113 PT25A/VREF1_1 (io), 114 PT24A (io), 115 PT23A/D0 (io), 116 PT22B/D1 (io), 117 PT22A/VREF2_1 (io), 118 PT21A/D2 (io), 120 PT20B/D3 (io), 122 PT17AD4 (io), 123 PT16A/D5 (io), 124 PT15B/D6 (io), 125 PT15A (io), 126 PT14B/D7 (io)
part C pins: 92 PR9B/PCLKC2_0 (io), 93 PR9A/PCLKT2_0 (io), 94 PR8B/RUM0_PLLC_IN_A (io), 95 PR8A/RUM0_PLLT_IN_A (io), 96 PR7B (io), 97 PR7A/DQS (io), 99 PR6B/VREF1_2 (io), 100 PR5A/VREF2_2 (io), 102 PR3B/RUM0_PLLC_FB_A (io), 103 PR3A/RUM0_PLLT_FB_A (io), 104 PR2B (io), 105 PR2A (io)
part D pins: 74 PR18B (io), 76 PR18A (io), 77 PR17B (io), 78 PR17A (io), 79 PR16B (io), 80 PR16A/DQS (io), 81 PR15B/VREF1_3 (io), 82 PR14A/VREF2_3 (io), 83 PR13B (io), 84 PR13A (io), 86 PR12A (io), 87 PR11B (io), 89 PR11A (io)
part E pins: 55 PB14A (io), 57 PB14B (io), 58 PB15A/PCLKT4_0 (io), 59 PB15B/PCLKC4_0 (io), 60 PB16A (io), 62 PB16B (io), 63 PB19A/DQS (io), 65 PB19B/VREF1_4 (io), 66 PB20A (io), 67 PB20B (io), 69 PB22A (io), 70 PB24A/VREF2_4 (io), 71 PB24B (io), 72 PB25A (io)
part F pins: 40 PB2B/VREF1_5 (io), 41 PB5B/VREF2_5 (io), 42 PB7A (io), 43 PB7B (io), 45 PB9A (io), 46 PB10B (io), 47 PB11A/DQS (io), 48 PB11B (io), 50 PB12A (io), 51 PB12B (io), 52 PB13A (io), 53 PB13B (io)
part G pins: 22 PL11A (io), 23 PL11B (io), 24 PL12A/PCLKT6_0 (io), 25 PL12B/PCLKC6_0 (io), 26 PL13A (io), 27 PL13B (io), 29 PL14A/VREF1_6 (io), 30 PL15B/VREF2_6 (io), 31 PL16A/DQS (io), 32 PL16B (io), 33 PL17A (io), 34 PL18A (io), 35 PL18B (io)
part H pins: 4 PL2A (io), 5 PL2B (io), 6 PL3A/LUM0_PLLT_FB_A (io), 7 PL3B/LUM0_PLLC_FB_A (io), 9 PL5A/VREF1_7 (io), 10 PL6B/VREF2_7 (io), 12 PL7A/DQS (io), 13 PL7B (io), 15 PL8A/LUM0_PLLT_IN_A (io), 16 PL8B/LUM0_PLLC_IN_A (io), 17 PL9A (io), 18 PL9B (io)
part I pins: 1 PROGRAMN (in), 2 CCLK (io), 37 TOE (in), 38 INITN (io), 107 TDO (out), 109 TDI (in), 110 TMS (in), 111 TCK (in), 142 CFG0 (in), 143 CFG1 (in), 144 DONE (io)
part J pins: 8 VCCIO7 (power), 14 VCC (power), 19 VCCP0 (power), 21 VCCIO6 (power), 36 VCCAUX (power), 39 VCC (power), 49 VCCIO5 (power), 61 VCCIO4 (power), 68 VCCIO4 (power), 73 VCC (power), 88 VCCIO3 (power), 91 VCCP1 (power), 98 VCCIO2 (power), 106 VCCAUX (power), 108 VCCJ (power), 112 VCC (power), 119 VCCIO1 (power), 133 VCCIO0 (power)
part K pins: 3 GND (power), 11 GNDIO7 (power), 20 GNDP0 (power), 28 GNDIO6 (power), 44 GNDIO5 (power), 54 GND (power), 56 GNDIO4 (power), 64 GNDIO4 (power), 75 GNDIO3 (power), 85 GND (power), 90 GNDP1 (power), 101 GNDIO2 (power), 121 GNDIO1 (power), 127 GND (power), 136 GNDIO0 (power)
part A text: BANK 0
part B text: BANK 1
part C text: BANK 2
part D text: BANK 3
part E text: BANK 4
part F text: BANK 5
part G text: BANK 6
part H text: BANK 7

## LFXP3E-3TN144I
designator U?
XP 1.2V FPGA, 100 I/Os, 3K LUTs, 144-Pin TQFP, Speed Grade 3, Industrial Grade, Pb-Free; DatasheetVersion: ver05.1, Nov-2007; PackageVersion: ver02.8, Jul-2011; PackageReference: TQFP144; PackageDescription: 144-Pin Thin Quad Flat Pack (TQFP144); Code_JEDEC: MS-026-BFB; ComponentLink1Description: Manufacturer URL; ComponentLink1URL: http://www.latticesemi.com/; ComponentLink2Description: Datasheet; ComponentLink2URL: http://www.latticesemi.com/lit/docs/datasheets/fpga/DS1001.pdf; ComponentLink3Description: Package Specification; ComponentLink3URL: http://www.latticesemi.com/lit/docs/package/pkg.pdf
footprint TQFP144_N (Thin QFP, 144-Leads, Body 20x20mm, Pitch 0.5mm, IPC Medium Density)
footprint TQFP144_L (Thin QFP, 144-Leads, Body 20x20mm, Pitch 0.5mm, IPC High Density)
footprint TQFP144_M (Thin QFP, 144-Leads, Body 20x20mm, Pitch 0.5mm, IPC Low Density)
part A pins: 128 PT13B/BUSY (io), 129 PT13A/CS1N (io), 130 PT12B/PCLKC0_0 (io), 131 PT12A/PCLKT0_0 (io), 132 PT11B (io), 134 PT11A/DQS (io), 135 PT9A/DOUT (io), 137 PT8A/WRITEN (io), 138 PT7A/VREF1_0 (io), 139 PT6A/DI (io), 140 PT5A/CSN (io), 141 PT3B/VREF2_0 (io)
part B pins: 113 PT25A/VREF1_1 (io), 114 PT24A (io), 115 PT23A/D0 (io), 116 PT22B/D1 (io), 117 PT22A/VREF2_1 (io), 118 PT21A/D2 (io), 120 PT20B/D3 (io), 122 PT17AD4 (io), 123 PT16A/D5 (io), 124 PT15B/D6 (io), 125 PT15A (io), 126 PT14B/D7 (io)
part C pins: 92 PR9B/PCLKC2_0 (io), 93 PR9A/PCLKT2_0 (io), 94 PR8B/RUM0_PLLC_IN_A (io), 95 PR8A/RUM0_PLLT_IN_A (io), 96 PR7B (io), 97 PR7A/DQS (io), 99 PR6B/VREF1_2 (io), 100 PR5A/VREF2_2 (io), 102 PR3B/RUM0_PLLC_FB_A (io), 103 PR3A/RUM0_PLLT_FB_A (io), 104 PR2B (io), 105 PR2A (io)
part D pins: 74 PR18B (io), 76 PR18A (io), 77 PR17B (io), 78 PR17A (io), 79 PR16B (io), 80 PR16A/DQS (io), 81 PR15B/VREF1_3 (io), 82 PR14A/VREF2_3 (io), 83 PR13B (io), 84 PR13A (io), 86 PR12A (io), 87 PR11B (io), 89 PR11A (io)
part E pins: 55 PB14A (io), 57 PB14B (io), 58 PB15A/PCLKT4_0 (io), 59 PB15B/PCLKC4_0 (io), 60 PB16A (io), 62 PB16B (io), 63 PB19A/DQS (io), 65 PB19B/VREF1_4 (io), 66 PB20A (io), 67 PB20B (io), 69 PB22A (io), 70 PB24A/VREF2_4 (io), 71 PB24B (io), 72 PB25A (io)
part F pins: 40 PB2B/VREF1_5 (io), 41 PB5B/VREF2_5 (io), 42 PB7A (io), 43 PB7B (io), 45 PB9A (io), 46 PB10B (io), 47 PB11A/DQS (io), 48 PB11B (io), 50 PB12A (io), 51 PB12B (io), 52 PB13A (io), 53 PB13B (io)
part G pins: 22 PL11A (io), 23 PL11B (io), 24 PL12A/PCLKT6_0 (io), 25 PL12B/PCLKC6_0 (io), 26 PL13A (io), 27 PL13B (io), 29 PL14A/VREF1_6 (io), 30 PL15B/VREF2_6 (io), 31 PL16A/DQS (io), 32 PL16B (io), 33 PL17A (io), 34 PL18A (io), 35 PL18B (io)
part H pins: 4 PL2A (io), 5 PL2B (io), 6 PL3A/LUM0_PLLT_FB_A (io), 7 PL3B/LUM0_PLLC_FB_A (io), 9 PL5A/VREF1_7 (io), 10 PL6B/VREF2_7 (io), 12 PL7A/DQS (io), 13 PL7B (io), 15 PL8A/LUM0_PLLT_IN_A (io), 16 PL8B/LUM0_PLLC_IN_A (io), 17 PL9A (io), 18 PL9B (io)
part I pins: 1 PROGRAMN (in), 2 CCLK (io), 37 TOE (in), 38 INITN (io), 107 TDO (out), 109 TDI (in), 110 TMS (in), 111 TCK (in), 142 CFG0 (in), 143 CFG1 (in), 144 DONE (io)
part J pins: 8 VCCIO7 (power), 14 VCC (power), 19 VCCP0 (power), 21 VCCIO6 (power), 36 VCCAUX (power), 39 VCC (power), 49 VCCIO5 (power), 61 VCCIO4 (power), 68 VCCIO4 (power), 73 VCC (power), 88 VCCIO3 (power), 91 VCCP1 (power), 98 VCCIO2 (power), 106 VCCAUX (power), 108 VCCJ (power), 112 VCC (power), 119 VCCIO1 (power), 133 VCCIO0 (power)
part K pins: 3 GND (power), 11 GNDIO7 (power), 20 GNDP0 (power), 28 GNDIO6 (power), 44 GNDIO5 (power), 54 GND (power), 56 GNDIO4 (power), 64 GNDIO4 (power), 75 GNDIO3 (power), 85 GND (power), 90 GNDP1 (power), 101 GNDIO2 (power), 121 GNDIO1 (power), 127 GND (power), 136 GNDIO0 (power)
part A text: BANK 0
part B text: BANK 1
part C text: BANK 2
part D text: BANK 3
part E text: BANK 4
part F text: BANK 5
part G text: BANK 6
part H text: BANK 7

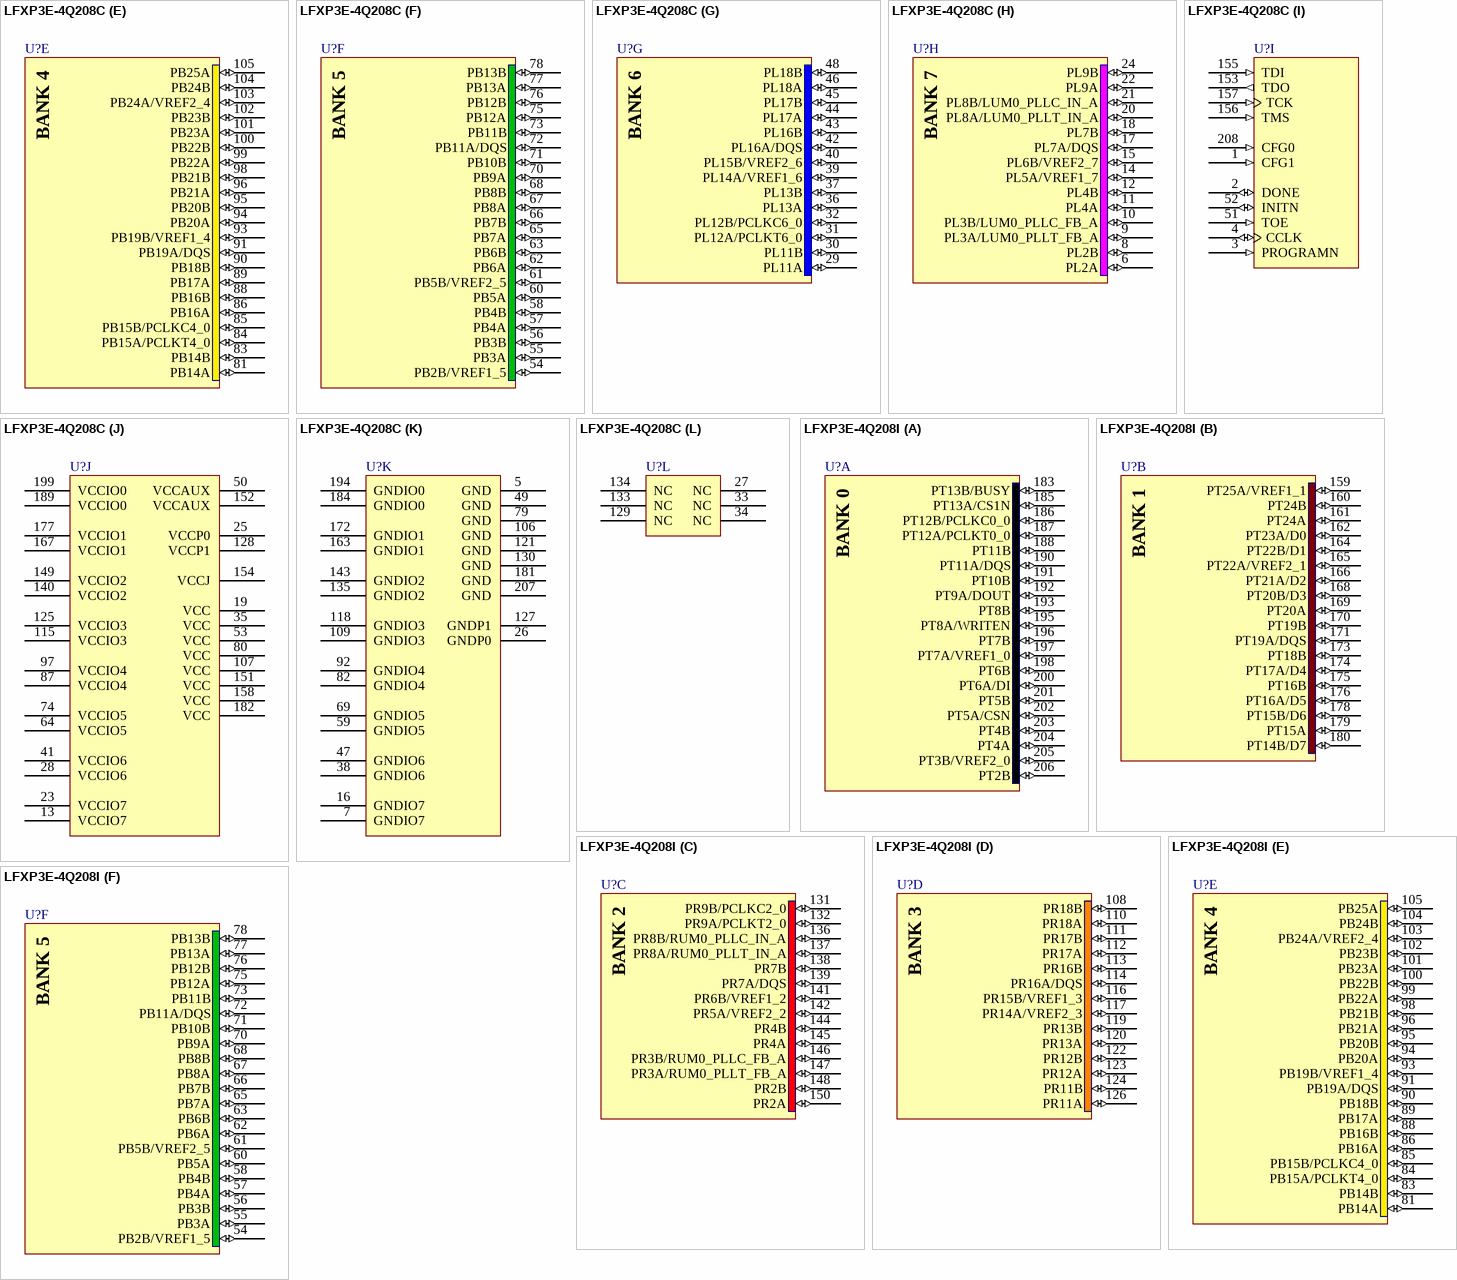
[diagram p24: symbols LFXP3E-4Q208C to LFXP3E-4Q208I]